# Altium schematic symbol library adafruit.SCHLIB: 884 symbols (part 11 of 15)
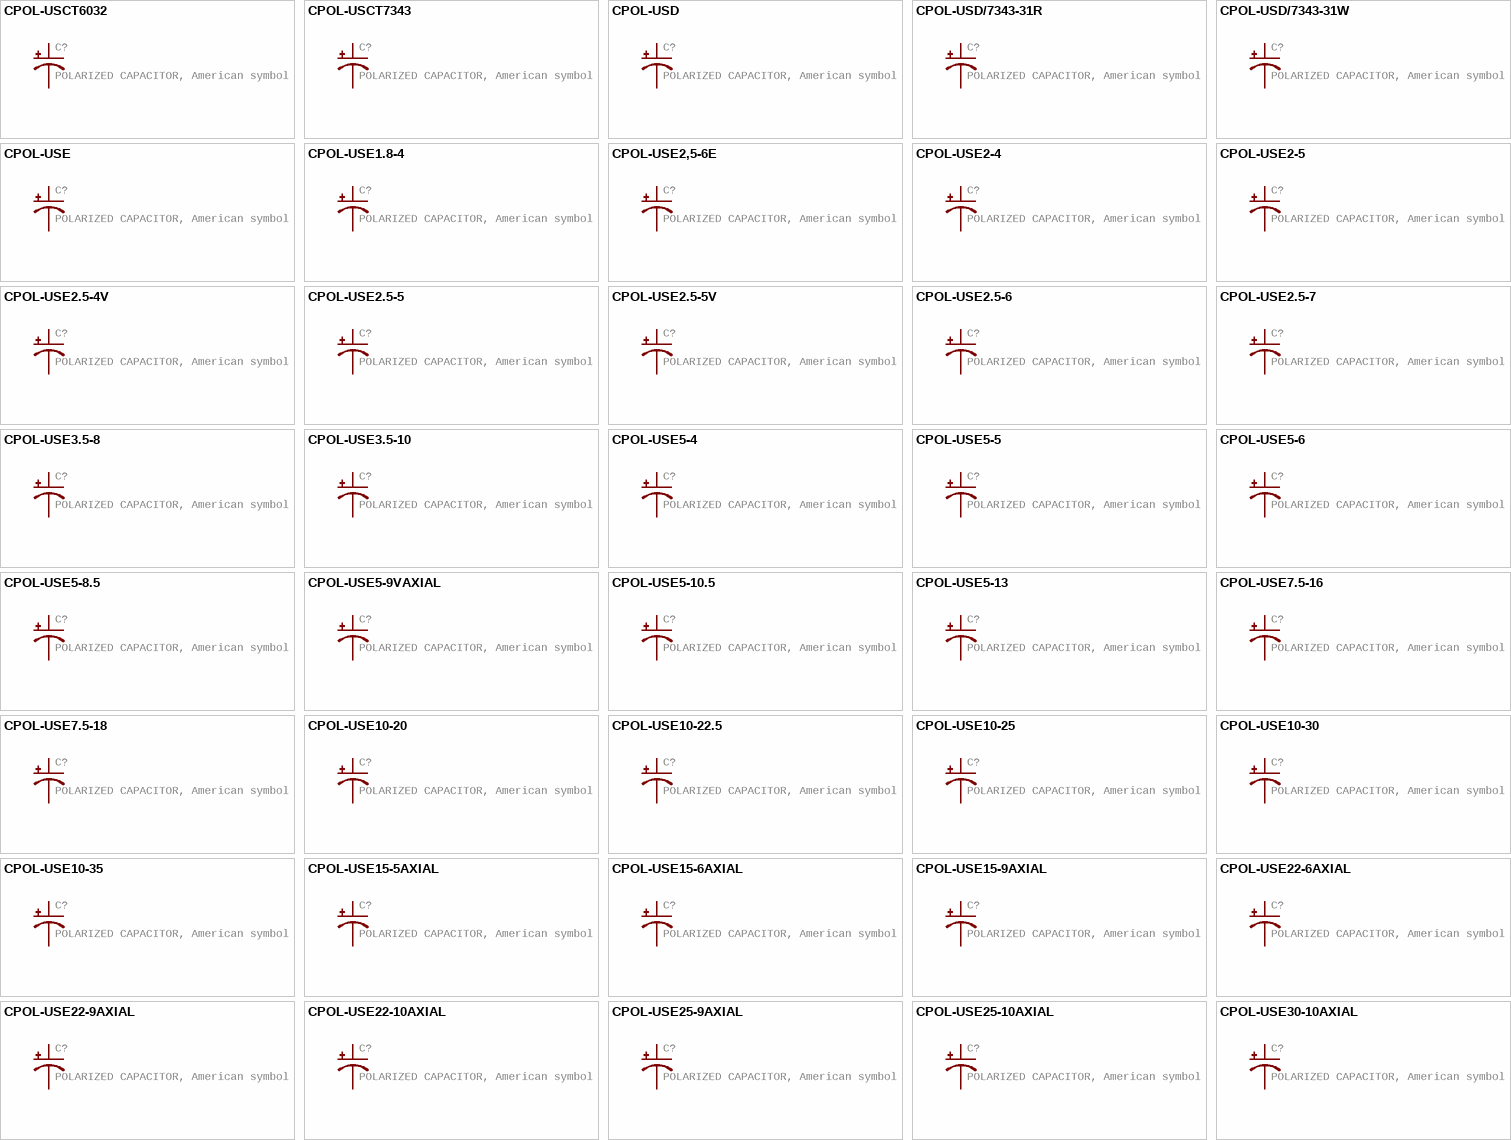
[diagram p198: symbols CPOL-USCT6032 to CPOL-USE30-10AXIAL]

## CPOL-USE2-4
designator C?, comment POLARIZED CAPACITOR, American symbol
GateName_1: G$1; SymbolName_1: CPOL-US; DeviceName: E2-4; LibraryName: adafruit; DeviceSetName: CPOL-US; Package: E2-4
footprint E2-4
pins: +, -

## CPOL-USE2-5
designator C?, comment POLARIZED CAPACITOR, American symbol
GateName_1: G$1; SymbolName_1: CPOL-US; DeviceName: E2-5; LibraryName: adafruit; DeviceSetName: CPOL-US; Package: E2-5
footprint E2-5
pins: +, -

## CPOL-USE2.5-4V
designator C?, comment POLARIZED CAPACITOR, American symbol
GateName_1: G$1; SymbolName_1: CPOL-US; DeviceName: E2.5-4V; LibraryName: adafruit; DeviceSetName: CPOL-US; Package: E2,5RE
footprint E2,5RE
pins: +, -

## CPOL-USE2.5-5
designator C?, comment POLARIZED CAPACITOR, American symbol
GateName_1: G$1; SymbolName_1: CPOL-US; DeviceName: E2.5-5; LibraryName: adafruit; DeviceSetName: CPOL-US; Package: E2,5-5
footprint E2,5-5
pins: +, -

## CPOL-USE2.5-5V
designator C?, comment POLARIZED CAPACITOR, American symbol
GateName_1: G$1; SymbolName_1: CPOL-US; DeviceName: E2.5-5V; LibraryName: adafruit; DeviceSetName: CPOL-US; Package: E2,5-4R
footprint E2,5-4R
pins: +, -

## CPOL-USE2.5-6
designator C?, comment POLARIZED CAPACITOR, American symbol
GateName_1: G$1; SymbolName_1: CPOL-US; DeviceName: E2.5-6; LibraryName: adafruit; DeviceSetName: CPOL-US; Package: E2,5-6
footprint E2,5-6
pins: +, -

## CPOL-USE2.5-7
designator C?, comment POLARIZED CAPACITOR, American symbol
GateName_1: G$1; SymbolName_1: CPOL-US; DeviceName: E2.5-7; LibraryName: adafruit; DeviceSetName: CPOL-US; Package: E2,5-7
footprint E2,5-7
pins: +, -

## CPOL-USE3.5-8
designator C?, comment POLARIZED CAPACITOR, American symbol
GateName_1: G$1; SymbolName_1: CPOL-US; DeviceName: E3.5-8; LibraryName: adafruit; DeviceSetName: CPOL-US; Package: E3,5-8
footprint E3,5-8
pins: +, -

## CPOL-USE3.5-10
designator C?, comment POLARIZED CAPACITOR, American symbol
GateName_1: G$1; SymbolName_1: CPOL-US; DeviceName: E3.5-10; LibraryName: adafruit; DeviceSetName: CPOL-US; Package: E3,5-10
footprint E3,5-10
pins: +, -

## CPOL-USE5-4
designator C?, comment POLARIZED CAPACITOR, American symbol
GateName_1: G$1; SymbolName_1: CPOL-US; DeviceName: E5-4; LibraryName: adafruit; DeviceSetName: CPOL-US; Package: E5-4
footprint E5-4
pins: +, -

## CPOL-USE5-5
designator C?, comment POLARIZED CAPACITOR, American symbol
GateName_1: G$1; SymbolName_1: CPOL-US; DeviceName: E5-5; LibraryName: adafruit; DeviceSetName: CPOL-US; Package: E5-5
footprint E5-5
pins: +, -

## CPOL-USE5-6
designator C?, comment POLARIZED CAPACITOR, American symbol
GateName_1: G$1; SymbolName_1: CPOL-US; DeviceName: E5-6; LibraryName: adafruit; DeviceSetName: CPOL-US; Package: E5-6
footprint E5-6
pins: +, -

## CPOL-USE5-8.5
designator C?, comment POLARIZED CAPACITOR, American symbol
GateName_1: G$1; SymbolName_1: CPOL-US; DeviceName: E5-8.5; LibraryName: adafruit; DeviceSetName: CPOL-US; Package: E5-8,5
footprint E5-8,5
pins: +, -

## CPOL-USE5-9VAXIAL
designator C?, comment POLARIZED CAPACITOR, American symbol
GateName_1: G$1; SymbolName_1: CPOL-US; DeviceName: E5-9VAXIAL; LibraryName: adafruit; DeviceSetName: CPOL-US; Package: E5R
footprint E5R
pins: +, -

## CPOL-USE5-10.5
designator C?, comment POLARIZED CAPACITOR, American symbol
GateName_1: G$1; SymbolName_1: CPOL-US; DeviceName: E5-10.5; LibraryName: adafruit; DeviceSetName: CPOL-US; Package: E5-10,5
footprint E5-10,5
pins: +, -

## CPOL-USE5-13
designator C?, comment POLARIZED CAPACITOR, American symbol
GateName_1: G$1; SymbolName_1: CPOL-US; DeviceName: E5-13; LibraryName: adafruit; DeviceSetName: CPOL-US; Package: E5-13
footprint E5-13
pins: +, -

## CPOL-USE7.5-16
designator C?, comment POLARIZED CAPACITOR, American symbol
GateName_1: G$1; SymbolName_1: CPOL-US; DeviceName: E7.5-16; LibraryName: adafruit; DeviceSetName: CPOL-US; Package: E7,5-16
footprint E7,5-16
pins: +, -

## CPOL-USE7.5-18
designator C?, comment POLARIZED CAPACITOR, American symbol
GateName_1: G$1; SymbolName_1: CPOL-US; DeviceName: E7.5-18; LibraryName: adafruit; DeviceSetName: CPOL-US; Package: E7,5-18
footprint E7,5-18
pins: +, -

## CPOL-USE10-20
designator C?, comment POLARIZED CAPACITOR, American symbol
GateName_1: G$1; SymbolName_1: CPOL-US; DeviceName: E10-20; LibraryName: adafruit; DeviceSetName: CPOL-US; Package: EB20D
footprint EB20D
pins: +, -

## CPOL-USE10-22.5
designator C?, comment POLARIZED CAPACITOR, American symbol
GateName_1: G$1; SymbolName_1: CPOL-US; DeviceName: E10-22.5; LibraryName: adafruit; DeviceSetName: CPOL-US; Package: EB22,5D
footprint EB22,5D
pins: +, -

## CPOL-USE10-25
designator C?, comment POLARIZED CAPACITOR, American symbol
GateName_1: G$1; SymbolName_1: CPOL-US; DeviceName: E10-25; LibraryName: adafruit; DeviceSetName: CPOL-US; Package: EB25D
footprint EB25D
pins: +, -

## CPOL-USE10-30
designator C?, comment POLARIZED CAPACITOR, American symbol
GateName_1: G$1; SymbolName_1: CPOL-US; DeviceName: E10-30; LibraryName: adafruit; DeviceSetName: CPOL-US; Package: EB30D
footprint EB30D
pins: +, -

## CPOL-USE10-35
designator C?, comment POLARIZED CAPACITOR, American symbol
GateName_1: G$1; SymbolName_1: CPOL-US; DeviceName: E10-35; LibraryName: adafruit; DeviceSetName: CPOL-US; Package: EB35D
footprint EB35D
pins: +, -

## CPOL-USE15-5AXIAL
designator C?, comment POLARIZED CAPACITOR, American symbol
GateName_1: G$1; SymbolName_1: CPOL-US; DeviceName: E15-5AXIAL; LibraryName: adafruit; DeviceSetName: CPOL-US; Package: E15-5
footprint E15-5
pins: +, -

## CPOL-USE15-6AXIAL
designator C?, comment POLARIZED CAPACITOR, American symbol
GateName_1: G$1; SymbolName_1: CPOL-US; DeviceName: E15-6AXIAL; LibraryName: adafruit; DeviceSetName: CPOL-US; Package: E15-6
footprint E15-6
pins: +, -

## CPOL-USE15-9AXIAL
designator C?, comment POLARIZED CAPACITOR, American symbol
GateName_1: G$1; SymbolName_1: CPOL-US; DeviceName: E15-9AXIAL; LibraryName: adafruit; DeviceSetName: CPOL-US; Package: E15-9
footprint E15-9
pins: +, -

## CPOL-USE22-6AXIAL
designator C?, comment POLARIZED CAPACITOR, American symbol
GateName_1: G$1; SymbolName_1: CPOL-US; DeviceName: E22-6AXIAL; LibraryName: adafruit; DeviceSetName: CPOL-US; Package: E22-6
footprint E22-6
pins: +, -

## CPOL-USE22-9AXIAL
designator C?, comment POLARIZED CAPACITOR, American symbol
GateName_1: G$1; SymbolName_1: CPOL-US; DeviceName: E22-9AXIAL; LibraryName: adafruit; DeviceSetName: CPOL-US; Package: E22-9
footprint E22-9
pins: +, -

## CPOL-USE22-10AXIAL
designator C?, comment POLARIZED CAPACITOR, American symbol
GateName_1: G$1; SymbolName_1: CPOL-US; DeviceName: E22-10AXIAL; LibraryName: adafruit; DeviceSetName: CPOL-US; Package: E22-10
footprint E22-10
pins: +, -

## CPOL-USE25-9AXIAL
designator C?, comment POLARIZED CAPACITOR, American symbol
GateName_1: G$1; SymbolName_1: CPOL-US; DeviceName: E25-9AXIAL; LibraryName: adafruit; DeviceSetName: CPOL-US; Package: E25-9
footprint E25-9
pins: +, -

## CPOL-USE25-10AXIAL
designator C?, comment POLARIZED CAPACITOR, American symbol
GateName_1: G$1; SymbolName_1: CPOL-US; DeviceName: E25-10AXIAL; LibraryName: adafruit; DeviceSetName: CPOL-US; Package: E25-10
footprint E25-10
pins: +, -

## CPOL-USE30-10AXIAL
designator C?, comment POLARIZED CAPACITOR, American symbol
GateName_1: G$1; SymbolName_1: CPOL-US; DeviceName: E30-10AXIAL; LibraryName: adafruit; DeviceSetName: CPOL-US; Package: E30-10
footprint E30-10
pins: +, -

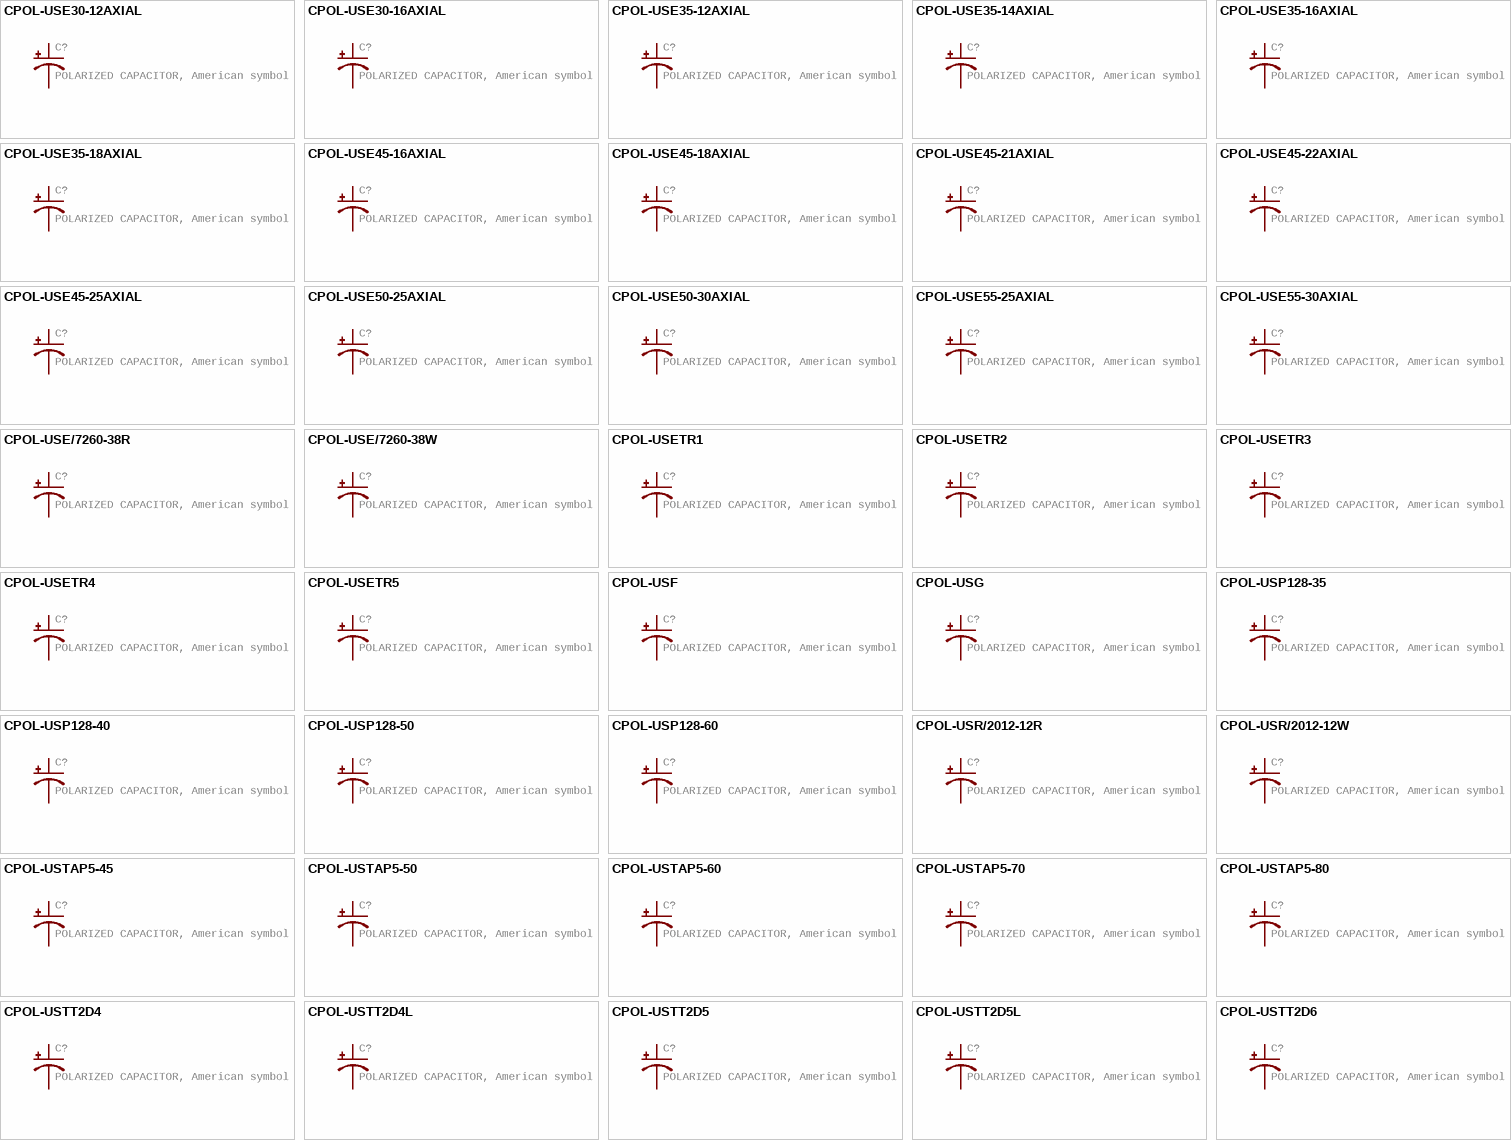
[diagram p171: symbols CPOL-USE30-12AXIAL to CPOL-USTT2D6]

## CPOL-USE30-12AXIAL
designator C?, comment POLARIZED CAPACITOR, American symbol
GateName_1: G$1; SymbolName_1: CPOL-US; DeviceName: E30-12AXIAL; LibraryName: adafruit; DeviceSetName: CPOL-US; Package: E30-12
footprint E30-12
pins: +, -

## CPOL-USE30-16AXIAL
designator C?, comment POLARIZED CAPACITOR, American symbol
GateName_1: G$1; SymbolName_1: CPOL-US; DeviceName: E30-16AXIAL; LibraryName: adafruit; DeviceSetName: CPOL-US; Package: E30-16
footprint E30-16
pins: +, -

## CPOL-USE35-12AXIAL
designator C?, comment POLARIZED CAPACITOR, American symbol
GateName_1: G$1; SymbolName_1: CPOL-US; DeviceName: E35-12AXIAL; LibraryName: adafruit; DeviceSetName: CPOL-US; Package: E35-12
footprint E35-12
pins: +, -

## CPOL-USE35-14AXIAL
designator C?, comment POLARIZED CAPACITOR, American symbol
GateName_1: G$1; SymbolName_1: CPOL-US; DeviceName: E35-14AXIAL; LibraryName: adafruit; DeviceSetName: CPOL-US; Package: E35-14
footprint E35-14
pins: +, -

## CPOL-USE35-16AXIAL
designator C?, comment POLARIZED CAPACITOR, American symbol
GateName_1: G$1; SymbolName_1: CPOL-US; DeviceName: E35-16AXIAL; LibraryName: adafruit; DeviceSetName: CPOL-US; Package: E35-16
footprint E35-16
pins: +, -

## CPOL-USE35-18AXIAL
designator C?, comment POLARIZED CAPACITOR, American symbol
GateName_1: G$1; SymbolName_1: CPOL-US; DeviceName: E35-18AXIAL; LibraryName: adafruit; DeviceSetName: CPOL-US; Package: E35-18
footprint E35-18
pins: +, -

## CPOL-USE45-16AXIAL
designator C?, comment POLARIZED CAPACITOR, American symbol
GateName_1: G$1; SymbolName_1: CPOL-US; DeviceName: E45-16AXIAL; LibraryName: adafruit; DeviceSetName: CPOL-US; Package: E45-16
footprint E45-16
pins: +, -

## CPOL-USE45-18AXIAL
designator C?, comment POLARIZED CAPACITOR, American symbol
GateName_1: G$1; SymbolName_1: CPOL-US; DeviceName: E45-18AXIAL; LibraryName: adafruit; DeviceSetName: CPOL-US; Package: E45-18
footprint E45-18
pins: +, -

## CPOL-USE45-21AXIAL
designator C?, comment POLARIZED CAPACITOR, American symbol
GateName_1: G$1; SymbolName_1: CPOL-US; DeviceName: E45-21AXIAL; LibraryName: adafruit; DeviceSetName: CPOL-US; Package: E45-21
footprint E45-21
pins: +, -

## CPOL-USE45-22AXIAL
designator C?, comment POLARIZED CAPACITOR, American symbol
GateName_1: G$1; SymbolName_1: CPOL-US; DeviceName: E45-22AXIAL; LibraryName: adafruit; DeviceSetName: CPOL-US; Package: E45-22
footprint E45-22
pins: +, -

## CPOL-USE45-25AXIAL
designator C?, comment POLARIZED CAPACITOR, American symbol
GateName_1: G$1; SymbolName_1: CPOL-US; DeviceName: E45-25AXIAL; LibraryName: adafruit; DeviceSetName: CPOL-US; Package: E45-25
footprint E45-25
pins: +, -

## CPOL-USE50-25AXIAL
designator C?, comment POLARIZED CAPACITOR, American symbol
GateName_1: G$1; SymbolName_1: CPOL-US; DeviceName: E50-25AXIAL; LibraryName: adafruit; DeviceSetName: CPOL-US; Package: E50-25
footprint E50-25
pins: +, -

## CPOL-USE50-30AXIAL
designator C?, comment POLARIZED CAPACITOR, American symbol
GateName_1: G$1; SymbolName_1: CPOL-US; DeviceName: E50-30AXIAL; LibraryName: adafruit; DeviceSetName: CPOL-US; Package: E50-30
footprint E50-30
pins: +, -

## CPOL-USE55-25AXIAL
designator C?, comment POLARIZED CAPACITOR, American symbol
GateName_1: G$1; SymbolName_1: CPOL-US; DeviceName: E55-25AXIAL; LibraryName: adafruit; DeviceSetName: CPOL-US; Package: E55-25
footprint E55-25
pins: +, -

## CPOL-USE55-30AXIAL
designator C?, comment POLARIZED CAPACITOR, American symbol
GateName_1: G$1; SymbolName_1: CPOL-US; DeviceName: E55-30AXIAL; LibraryName: adafruit; DeviceSetName: CPOL-US; Package: E55-30
footprint E55-30
pins: +, -

## CPOL-USE/7260-38R
designator C?, comment POLARIZED CAPACITOR, American symbol
GateName_1: G$1; SymbolName_1: CPOL-US; DeviceName: E/7260-38R; LibraryName: adafruit; DeviceSetName: CPOL-US; Package: E/7260-38R
footprint E/7260-38R
pins: +, -

## CPOL-USE/7260-38W
designator C?, comment POLARIZED CAPACITOR, American symbol
GateName_1: G$1; SymbolName_1: CPOL-US; DeviceName: E/7260-38W; LibraryName: adafruit; DeviceSetName: CPOL-US; Package: E/7260-38W
footprint E/7260-38W
pins: +, -

## CPOL-USETR1
designator C?, comment POLARIZED CAPACITOR, American symbol
GateName_1: G$1; SymbolName_1: CPOL-US; DeviceName: ETR1; LibraryName: adafruit; DeviceSetName: CPOL-US; Package: ETR1
footprint ETR1
pins: +, -

## CPOL-USETR2
designator C?, comment POLARIZED CAPACITOR, American symbol
GateName_1: G$1; SymbolName_1: CPOL-US; DeviceName: ETR2; LibraryName: adafruit; DeviceSetName: CPOL-US; Package: ETR2
footprint ETR2
pins: +, -

## CPOL-USETR3
designator C?, comment POLARIZED CAPACITOR, American symbol
GateName_1: G$1; SymbolName_1: CPOL-US; DeviceName: ETR3; LibraryName: adafruit; DeviceSetName: CPOL-US; Package: ETR3
footprint ETR3
pins: +, -

## CPOL-USETR4
designator C?, comment POLARIZED CAPACITOR, American symbol
GateName_1: G$1; SymbolName_1: CPOL-US; DeviceName: ETR4; LibraryName: adafruit; DeviceSetName: CPOL-US; Package: ETR4
footprint ETR4
pins: +, -

## CPOL-USETR5
designator C?, comment POLARIZED CAPACITOR, American symbol
GateName_1: G$1; SymbolName_1: CPOL-US; DeviceName: ETR5; LibraryName: adafruit; DeviceSetName: CPOL-US; Package: ETR5
footprint ETR5
pins: +, -

## CPOL-USF
designator C?, comment POLARIZED CAPACITOR, American symbol
GateName_1: G$1; SymbolName_1: CPOL-US; DeviceName: F; LibraryName: adafruit; DeviceSetName: CPOL-US; Package: PANASONIC_F
footprint PANASONIC_F
pins: +, -

## CPOL-USG
designator C?, comment POLARIZED CAPACITOR, American symbol
GateName_1: G$1; SymbolName_1: CPOL-US; DeviceName: G; LibraryName: adafruit; DeviceSetName: CPOL-US; Package: PANASONIC_G
footprint PANASONIC_G
pins: +, -

## CPOL-USP128-35
designator C?, comment POLARIZED CAPACITOR, American symbol
GateName_1: G$1; SymbolName_1: CPOL-US; DeviceName: P128-35; LibraryName: adafruit; DeviceSetName: CPOL-US; Package: P128-35
footprint P128-35
pins: +, -

## CPOL-USP128-40
designator C?, comment POLARIZED CAPACITOR, American symbol
GateName_1: G$1; SymbolName_1: CPOL-US; DeviceName: P128-40; LibraryName: adafruit; DeviceSetName: CPOL-US; Package: P128-40
footprint P128-40
pins: +, -

## CPOL-USP128-50
designator C?, comment POLARIZED CAPACITOR, American symbol
GateName_1: G$1; SymbolName_1: CPOL-US; DeviceName: P128-50; LibraryName: adafruit; DeviceSetName: CPOL-US; Package: P128-50
footprint P128-50
pins: +, -

## CPOL-USP128-60
designator C?, comment POLARIZED CAPACITOR, American symbol
GateName_1: G$1; SymbolName_1: CPOL-US; DeviceName: P128-60; LibraryName: adafruit; DeviceSetName: CPOL-US; Package: P128-60
footprint P128-60
pins: +, -

## CPOL-USR/2012-12R
designator C?, comment POLARIZED CAPACITOR, American symbol
GateName_1: G$1; SymbolName_1: CPOL-US; DeviceName: R/2012-12R; LibraryName: adafruit; DeviceSetName: CPOL-US; Package: R/2012-12R
footprint R/2012-12R
pins: +, -

## CPOL-USR/2012-12W
designator C?, comment POLARIZED CAPACITOR, American symbol
GateName_1: G$1; SymbolName_1: CPOL-US; DeviceName: R/2012-12W; LibraryName: adafruit; DeviceSetName: CPOL-US; Package: R/2012-12W
footprint R/2012-12W
pins: +, -

## CPOL-USTAP5-45
designator C?, comment POLARIZED CAPACITOR, American symbol
GateName_1: G$1; SymbolName_1: CPOL-US; DeviceName: TAP5-45; LibraryName: adafruit; DeviceSetName: CPOL-US; Package: TAP5-45
footprint TAP5-45
pins: +, -

## CPOL-USTAP5-50
designator C?, comment POLARIZED CAPACITOR, American symbol
GateName_1: G$1; SymbolName_1: CPOL-US; DeviceName: TAP5-50; LibraryName: adafruit; DeviceSetName: CPOL-US; Package: TAP5-50
footprint TAP5-50
pins: +, -

## CPOL-USTAP5-60
designator C?, comment POLARIZED CAPACITOR, American symbol
GateName_1: G$1; SymbolName_1: CPOL-US; DeviceName: TAP5-60; LibraryName: adafruit; DeviceSetName: CPOL-US; Package: TAP5-60
footprint TAP5-60
pins: +, -

## CPOL-USTAP5-70
designator C?, comment POLARIZED CAPACITOR, American symbol
GateName_1: G$1; SymbolName_1: CPOL-US; DeviceName: TAP5-70; LibraryName: adafruit; DeviceSetName: CPOL-US; Package: TAP5-70
footprint TAP5-70
pins: +, -

## CPOL-USTAP5-80
designator C?, comment POLARIZED CAPACITOR, American symbol
GateName_1: G$1; SymbolName_1: CPOL-US; DeviceName: TAP5-80; LibraryName: adafruit; DeviceSetName: CPOL-US; Package: TAP5-80
footprint TAP5-80
pins: +, -

## CPOL-USTT2D4
designator C?, comment POLARIZED CAPACITOR, American symbol
GateName_1: G$1; SymbolName_1: CPOL-US; DeviceName: TT2D4; LibraryName: adafruit; DeviceSetName: CPOL-US; Package: TT2D4
footprint TT2D4
pins: +, -

## CPOL-USTT2D4L
designator C?, comment POLARIZED CAPACITOR, American symbol
GateName_1: G$1; SymbolName_1: CPOL-US; DeviceName: TT2D4L; LibraryName: adafruit; DeviceSetName: CPOL-US; Package: TT2D4L
footprint TT2D4L
pins: +, -

## CPOL-USTT2D5
designator C?, comment POLARIZED CAPACITOR, American symbol
GateName_1: G$1; SymbolName_1: CPOL-US; DeviceName: TT2D5; LibraryName: adafruit; DeviceSetName: CPOL-US; Package: TT2D5
footprint TT2D5
pins: +, -

## CPOL-USTT2D5L
designator C?, comment POLARIZED CAPACITOR, American symbol
GateName_1: G$1; SymbolName_1: CPOL-US; DeviceName: TT2D5L; LibraryName: adafruit; DeviceSetName: CPOL-US; Package: TT2D5L
footprint TT2D5L
pins: +, -

## CPOL-USTT2D6
designator C?, comment POLARIZED CAPACITOR, American symbol
GateName_1: G$1; SymbolName_1: CPOL-US; DeviceName: TT2D6; LibraryName: adafruit; DeviceSetName: CPOL-US; Package: TT2D6
footprint TT2D6
pins: +, -

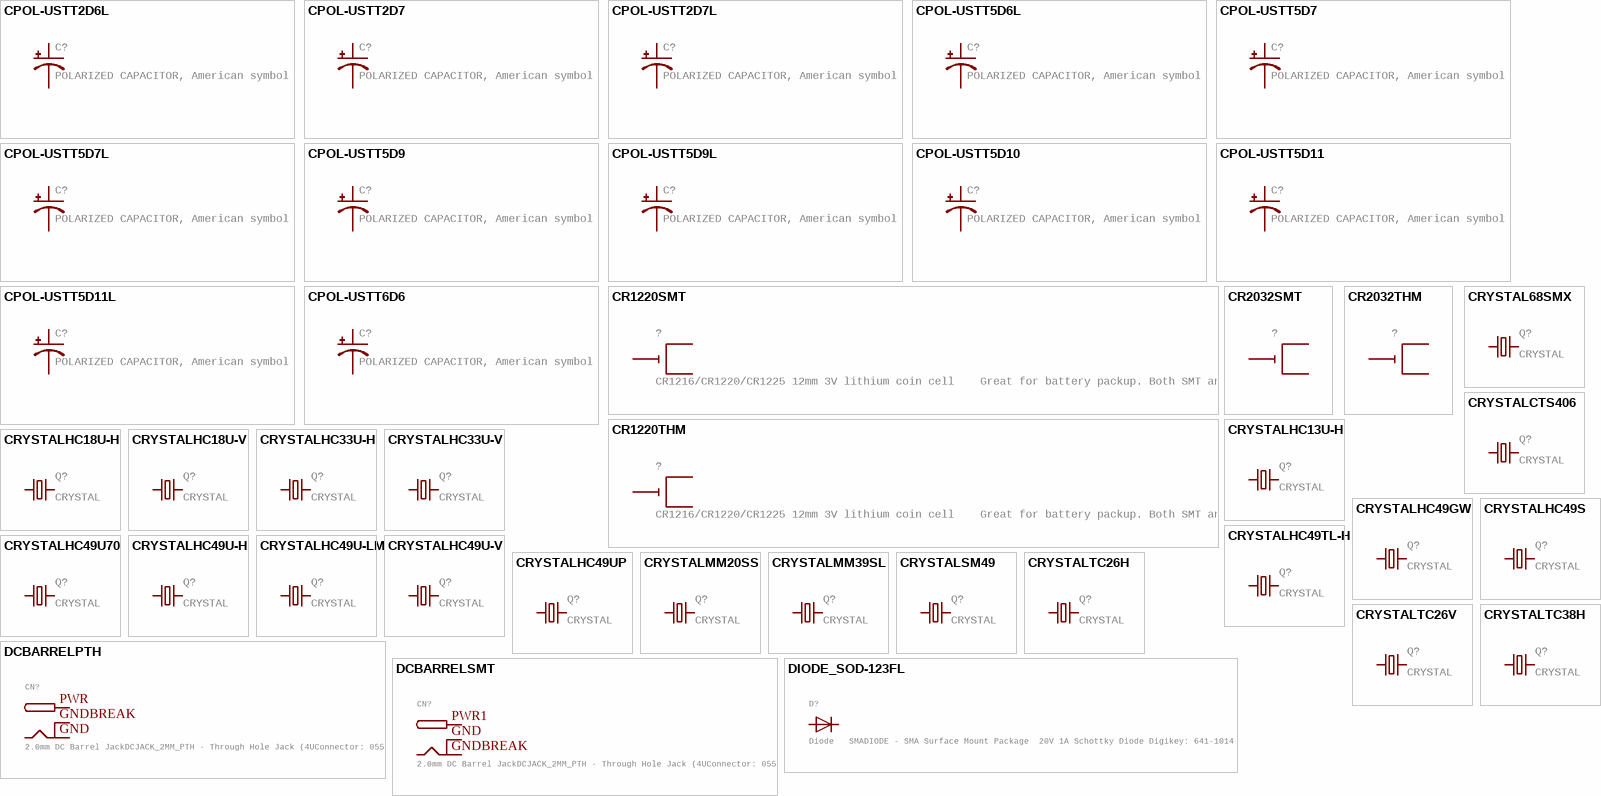
[diagram p172: symbols CPOL-USTT2D6L to DIODE_SOD-123FL]

## CPOL-USTT2D6L
designator C?, comment POLARIZED CAPACITOR, American symbol
GateName_1: G$1; SymbolName_1: CPOL-US; DeviceName: TT2D6L; LibraryName: adafruit; DeviceSetName: CPOL-US; Package: TT2D6L
footprint TT2D6L
pins: +, -

## CPOL-USTT2D7
designator C?, comment POLARIZED CAPACITOR, American symbol
GateName_1: G$1; SymbolName_1: CPOL-US; DeviceName: TT2D7; LibraryName: adafruit; DeviceSetName: CPOL-US; Package: TT2D7
footprint TT2D7
pins: +, -

## CPOL-USTT2D7L
designator C?, comment POLARIZED CAPACITOR, American symbol
GateName_1: G$1; SymbolName_1: CPOL-US; DeviceName: TT2D7L; LibraryName: adafruit; DeviceSetName: CPOL-US; Package: TT2D7L
footprint TT2D7L
pins: +, -

## CPOL-USTT5D6L
designator C?, comment POLARIZED CAPACITOR, American symbol
GateName_1: G$1; SymbolName_1: CPOL-US; DeviceName: TT5D6L; LibraryName: adafruit; DeviceSetName: CPOL-US; Package: TT5D6L
footprint TT5D6L
pins: +, -

## CPOL-USTT5D7
designator C?, comment POLARIZED CAPACITOR, American symbol
GateName_1: G$1; SymbolName_1: CPOL-US; DeviceName: TT5D7; LibraryName: adafruit; DeviceSetName: CPOL-US; Package: TT5D7
footprint TT5D7
pins: +, -

## CPOL-USTT5D7L
designator C?, comment POLARIZED CAPACITOR, American symbol
GateName_1: G$1; SymbolName_1: CPOL-US; DeviceName: TT5D7L; LibraryName: adafruit; DeviceSetName: CPOL-US; Package: TT5D7L
footprint TT5D7L
pins: +, -

## CPOL-USTT5D9
designator C?, comment POLARIZED CAPACITOR, American symbol
GateName_1: G$1; SymbolName_1: CPOL-US; DeviceName: TT5D9; LibraryName: adafruit; DeviceSetName: CPOL-US; Package: TT5D9
footprint TT5D9
pins: +, -

## CPOL-USTT5D9L
designator C?, comment POLARIZED CAPACITOR, American symbol
GateName_1: G$1; SymbolName_1: CPOL-US; DeviceName: TT5D9L; LibraryName: adafruit; DeviceSetName: CPOL-US; Package: TT5D9L
footprint TT5D9L
pins: +, -

## CPOL-USTT5D10
designator C?, comment POLARIZED CAPACITOR, American symbol
GateName_1: G$1; SymbolName_1: CPOL-US; DeviceName: TT5D10; LibraryName: adafruit; DeviceSetName: CPOL-US; Package: TT5D10
footprint TT5D10
pins: +, -

## CPOL-USTT5D11
designator C?, comment POLARIZED CAPACITOR, American symbol
GateName_1: G$1; SymbolName_1: CPOL-US; DeviceName: TT5D11; LibraryName: adafruit; DeviceSetName: CPOL-US; Package: TT5D11
footprint TT5D11
pins: +, -

## CPOL-USTT5D11L
designator C?, comment POLARIZED CAPACITOR, American symbol
GateName_1: G$1; SymbolName_1: CPOL-US; DeviceName: TT5D11L; LibraryName: adafruit; DeviceSetName: CPOL-US; Package: TT5D11L
footprint TT5D11L
pins: +, -

## CPOL-USTT6D6
designator C?, comment POLARIZED CAPACITOR, American symbol
GateName_1: G$1; SymbolName_1: CPOL-US; DeviceName: TT6D6; LibraryName: adafruit; DeviceSetName: CPOL-US; Package: TT5D6
footprint TT5D6
pins: +, -

## CR1220SMT
designator ?, comment CR1216/CR1220/CR1225 12mm 3V lithium coin cell    Great for battery packup. Both SMT and THM holders.  Note the THM package has the ground pads on both sides of the PCB so that the masks are the same - this reduces the cost
GateName_1: G$1; DeviceSetName: CR1220; SymbolName_1: 3V; DeviceName: SMT; LibraryName: adafruit; Package: CR1220-SMD
footprint CR1220-SMD
pins: +$1 +, +$2 +1, -

## CR1220THM
designator ?, comment CR1216/CR1220/CR1225 12mm 3V lithium coin cell    Great for battery packup. Both SMT and THM holders.  Note the THM package has the ground pads on both sides of the PCB so that the masks are the same - this reduces the cost
GateName_1: G$1; DeviceSetName: CR1220; SymbolName_1: 3V; DeviceName: THM; LibraryName: adafruit; Package: CR1220-THM
footprint CR1220-THM
pins: +1 +, +2 +1, -

## CR2032SMT
designator ?
GateName_1: G$1; SymbolName_1: 3V; DeviceName: SMT; DeviceSetName: CR2032; LibraryName: adafruit; Package: CR2032-SMD
footprint CR2032-SMD
pins: +$1 +, +$2 +1, -

## CR2032THM
designator ?
GateName_1: G$1; SymbolName_1: 3V; DeviceName: THM; DeviceSetName: CR2032; LibraryName: adafruit; Package: CR2032-THRU
footprint CR2032-THRU
pins: +1 +, +2 +1, -

## CRYSTAL68SMX
designator Q?, comment CRYSTAL
GateName_1: G$1; SymbolName_1: Q; DeviceName: 68SMX; LibraryName: adafruit; DeviceSetName: CRYSTAL; Package: 86SMX; OC_FARNELL: 6344860; OC_NEWARK: unknown
footprint 86SMX
pins: 1, 4 2

## CRYSTALCTS406
designator Q?, comment CRYSTAL
GateName_1: G$1; SymbolName_1: Q; DeviceName: CTS406; LibraryName: adafruit; DeviceSetName: CRYSTAL; Package: CTS406; OC_FARNELL: unknown; OC_NEWARK: unknown
footprint CTS406
pins: 1, 3 2

## CRYSTALHC13U-H
designator Q?, comment CRYSTAL
GateName_1: G$1; SymbolName_1: Q; DeviceName: HC13U-H; LibraryName: adafruit; DeviceSetName: CRYSTAL; Package: HC13U-H; OC_FARNELL: unknown; OC_NEWARK: unknown
footprint HC13U-H
pins: 1, 2

## CRYSTALHC18U-H
designator Q?, comment CRYSTAL
GateName_1: G$1; SymbolName_1: Q; DeviceName: HC18U-H; LibraryName: adafruit; DeviceSetName: CRYSTAL; Package: HC18U-H; OC_FARNELL: unknown; OC_NEWARK: unknown
footprint HC18U-H
pins: 1, 2

## CRYSTALHC18U-V
designator Q?, comment CRYSTAL
GateName_1: G$1; SymbolName_1: Q; DeviceName: HC18U-V; LibraryName: adafruit; DeviceSetName: CRYSTAL; Package: HC18U-V; OC_FARNELL: unknown; OC_NEWARK: unknown
footprint HC18U-V
pins: 1, 2

## CRYSTALHC33U-H
designator Q?, comment CRYSTAL
GateName_1: G$1; SymbolName_1: Q; DeviceName: HC33U-H; LibraryName: adafruit; DeviceSetName: CRYSTAL; Package: HC33U-H; OC_FARNELL: unknown; OC_NEWARK: unknown
footprint HC33U-H
pins: 1, 2

## CRYSTALHC33U-V
designator Q?, comment CRYSTAL
GateName_1: G$1; SymbolName_1: Q; DeviceName: HC33U-V; LibraryName: adafruit; DeviceSetName: CRYSTAL; Package: HC33U-V; OC_FARNELL: unknown; OC_NEWARK: unknown
footprint HC33U-V
pins: 1, 2

## CRYSTALHC49GW
designator Q?, comment CRYSTAL
GateName_1: G$1; SymbolName_1: Q; DeviceName: HC49GW; LibraryName: adafruit; DeviceSetName: CRYSTAL; Package: HC49GW; OC_FARNELL: unknown; OC_NEWARK: unknown
footprint HC49GW
pins: 1, 2

## CRYSTALHC49S
designator Q?, comment CRYSTAL
GateName_1: G$1; SymbolName_1: Q; DeviceName: HC49S; LibraryName: adafruit; DeviceSetName: CRYSTAL; Package: HC49/S; OC_FARNELL: 1667008; OC_NEWARK: unknown
footprint HC49/S
pins: 1, 2

## CRYSTALHC49TL-H
designator Q?, comment CRYSTAL
GateName_1: G$1; SymbolName_1: Q; DeviceName: HC49TL-H; LibraryName: adafruit; DeviceSetName: CRYSTAL; Package: HC49TL-H; OC_FARNELL: unknown; OC_NEWARK: unknown
footprint HC49TL-H
pins: 1, 2

## CRYSTALHC49U70
designator Q?, comment CRYSTAL
GateName_1: G$1; SymbolName_1: Q; DeviceName: HC49U70; LibraryName: adafruit; DeviceSetName: CRYSTAL; Package: HC49U70; OC_FARNELL: unknown; OC_NEWARK: unknown
footprint HC49U70
pins: 1, 2

## CRYSTALHC49U-H
designator Q?, comment CRYSTAL
GateName_1: G$1; SymbolName_1: Q; DeviceName: HC49U-H; LibraryName: adafruit; DeviceSetName: CRYSTAL; Package: HC49U-H; OC_FARNELL: 1666973; OC_NEWARK: unknown
footprint HC49U-H
pins: 1, 2

## CRYSTALHC49U-LM
designator Q?, comment CRYSTAL
GateName_1: G$1; SymbolName_1: Q; DeviceName: HC49U-LM; LibraryName: adafruit; DeviceSetName: CRYSTAL; Package: HC49U-LM; OC_FARNELL: 1666956; OC_NEWARK: unknown
footprint HC49U-LM
pins: 1, 2

## CRYSTALHC49U-V
designator Q?, comment CRYSTAL
GateName_1: G$1; SymbolName_1: Q; DeviceName: HC49U-V; LibraryName: adafruit; DeviceSetName: CRYSTAL; Package: HC49U-V; OC_FARNELL: 1666969; OC_NEWARK: unknown
footprint HC49U-V
pins: 1, 2

## CRYSTALHC49UP
designator Q?, comment CRYSTAL
GateName_1: G$1; SymbolName_1: Q; DeviceName: HC49UP; LibraryName: adafruit; DeviceSetName: CRYSTAL; Package: HC49UP; OC_FARNELL: unknown; OC_NEWARK: unknown
footprint HC49UP
pins: 1, 2

## CRYSTALMM20SS
designator Q?, comment CRYSTAL
GateName_1: G$1; SymbolName_1: Q; DeviceName: MM20SS; LibraryName: adafruit; DeviceSetName: CRYSTAL; Package: MM20SS; OC_FARNELL: unknown; OC_NEWARK: unknown
footprint MM20SS
pins: 1, 4 2

## CRYSTALMM39SL
designator Q?, comment CRYSTAL
GateName_1: G$1; SymbolName_1: Q; DeviceName: MM39SL; LibraryName: adafruit; DeviceSetName: CRYSTAL; Package: MM39SL; OC_FARNELL: unknown; OC_NEWARK: unknown
footprint MM39SL
pins: 1, 4 2

## CRYSTALSM49
designator Q?, comment CRYSTAL
GateName_1: G$1; SymbolName_1: Q; DeviceName: SM49; LibraryName: adafruit; DeviceSetName: CRYSTAL; Package: SM49; OC_FARNELL: unknown; OC_NEWARK: unknown
footprint SM49
pins: 1, 2

## CRYSTALTC26H
designator Q?, comment CRYSTAL
GateName_1: G$1; SymbolName_1: Q; DeviceName: TC26H; LibraryName: adafruit; DeviceSetName: CRYSTAL; Package: TC26H; OC_FARNELL: unknown; OC_NEWARK: unknown
footprint TC26H
pins: 1, 2

## CRYSTALTC26V
designator Q?, comment CRYSTAL
GateName_1: G$1; SymbolName_1: Q; DeviceName: TC26V; LibraryName: adafruit; DeviceSetName: CRYSTAL; Package: TC26V; OC_FARNELL: unknown; OC_NEWARK: unknown
footprint TC26V
pins: 1, 2

## CRYSTALTC38H
designator Q?, comment CRYSTAL
GateName_1: G$1; SymbolName_1: Q; DeviceName: TC38H; LibraryName: adafruit; DeviceSetName: CRYSTAL; Package: TC38H; OC_FARNELL: unknown; OC_NEWARK: unknown
footprint TC38H
pins: 1, 2

## DCBARRELPTH
designator CN?, comment 2.0mm DC Barrel JackDCJACK_2MM_PTH - Through Hole Jack (4UConnector: 05537)
GateName_1: G$1; DeviceName: PTH; SymbolName_1: DCBARREL; LibraryName: adafruit; DeviceSetName: DCBARREL; Package: DCJACK_2MM_PTH
footprint DCJACK_2MM_PTH
pins: GND (power), GNDBREAK (power), PWR (power)

## DCBARRELSMT
designator CN?, comment 2.0mm DC Barrel JackDCJACK_2MM_PTH - Through Hole Jack (4UConnector: 05537)
GateName_1: G$1; DeviceName: SMT; SymbolName_1: DCBARREL; LibraryName: adafruit; DeviceSetName: DCBARREL; Package: DCJACK_2MM_SMT
footprint DCJACK_2MM_SMT
pins: GND GNDBREAK (power), GNDBREAK GND (power), PWR1 PWR (power)

## DIODE_SOD-123FL
designator D?, comment Diode   SMADIODE - SMA Surface Mount Package  20V 1A Schottky Diode Digikey: 641-1014-6-ND    DO-1N4148 - Through Hole Small Current Diode SOD-123 20V 1 A (.5mV Vf) Schottky Diode - Digikey: MBRX120TPMSCT-ND    SOD-323 10V 570mA (.38mV Vf, 3ns) Schottky Diode - Digikey: ZLLS410CT-ND    SOD-523 30V 30mA Schottky Diode (RB751S-40TE61) - Digikey: RB751S-40TE61CT-ND    SOT23-R/W - SOT23 Package (R = Solder Paste/Reflow Ovens, W = Hand-Soldering)  BAT54Film 40V 300mA - Digikey: 497-7162-1-ND
GateName_1: G$1; DeviceName: _SOD-123FL; SymbolName_1: DIODE; LibraryName: adafruit; DeviceSetName: DIODE; Package: SOD-123FL
footprint SOD-123FL
pins: A, C

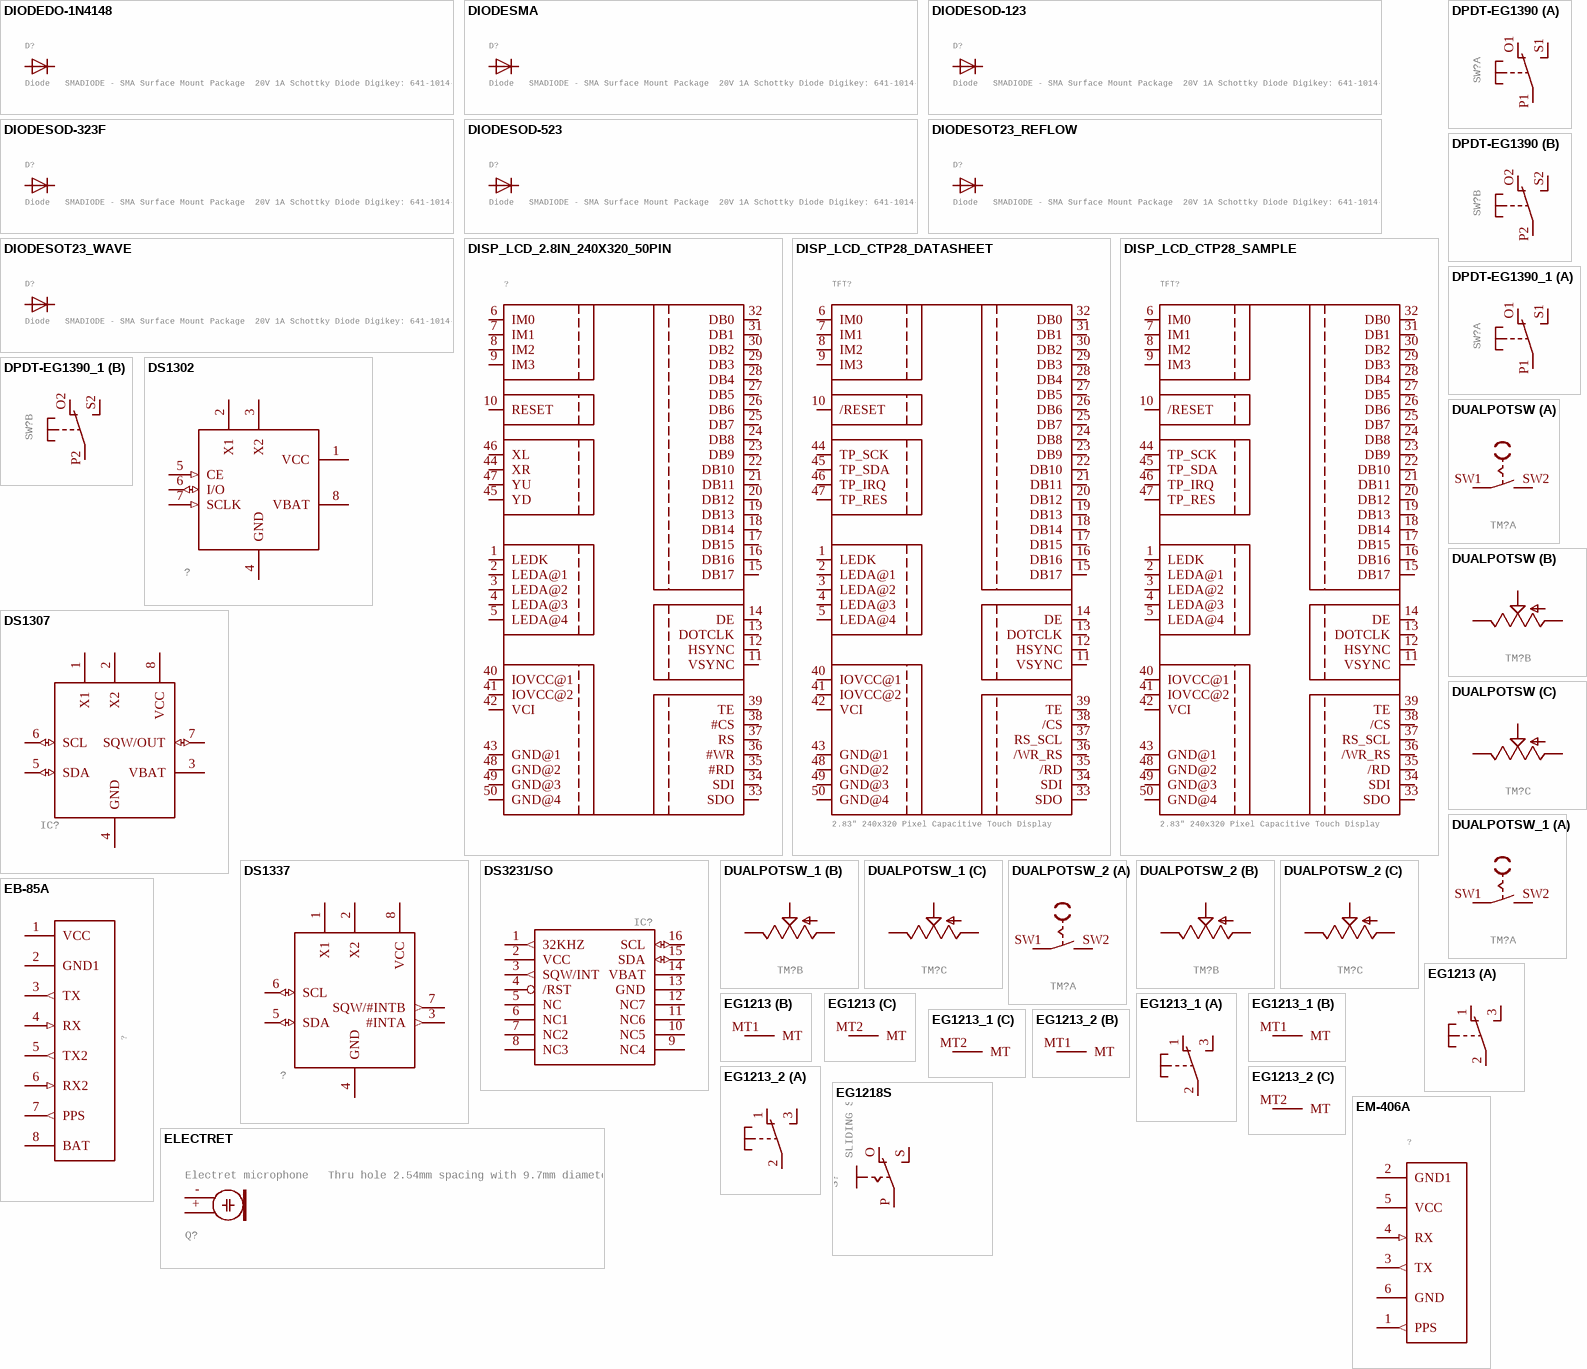
[diagram p173: symbols DIODEDO-1N4148 to EM-406A]

## DIODEDO-1N4148
designator D?, comment Diode   SMADIODE - SMA Surface Mount Package  20V 1A Schottky Diode Digikey: 641-1014-6-ND    DO-1N4148 - Through Hole Small Current Diode SOD-123 20V 1 A (.5mV Vf) Schottky Diode - Digikey: MBRX120TPMSCT-ND    SOD-323 10V 570mA (.38mV Vf, 3ns) Schottky Diode - Digikey: ZLLS410CT-ND    SOD-523 30V 30mA Schottky Diode (RB751S-40TE61) - Digikey: RB751S-40TE61CT-ND    SOT23-R/W - SOT23 Package (R = Solder Paste/Reflow Ovens, W = Hand-Soldering)  BAT54Film 40V 300mA - Digikey: 497-7162-1-ND
GateName_1: G$1; SymbolName_1: DIODE; DeviceName: DO-1N4148; LibraryName: adafruit; DeviceSetName: DIODE; Package: DO-1N4148
footprint DO-1N4148
pins: A, C

## DIODESMA
designator D?, comment Diode   SMADIODE - SMA Surface Mount Package  20V 1A Schottky Diode Digikey: 641-1014-6-ND    DO-1N4148 - Through Hole Small Current Diode SOD-123 20V 1 A (.5mV Vf) Schottky Diode - Digikey: MBRX120TPMSCT-ND    SOD-323 10V 570mA (.38mV Vf, 3ns) Schottky Diode - Digikey: ZLLS410CT-ND    SOD-523 30V 30mA Schottky Diode (RB751S-40TE61) - Digikey: RB751S-40TE61CT-ND    SOT23-R/W - SOT23 Package (R = Solder Paste/Reflow Ovens, W = Hand-Soldering)  BAT54Film 40V 300mA - Digikey: 497-7162-1-ND
GateName_1: G$1; SymbolName_1: DIODE; DeviceName: SMA; LibraryName: adafruit; DeviceSetName: DIODE; Package: SMADIODE
footprint SMADIODE
pins: A, C

## DIODESOD-123
designator D?, comment Diode   SMADIODE - SMA Surface Mount Package  20V 1A Schottky Diode Digikey: 641-1014-6-ND    DO-1N4148 - Through Hole Small Current Diode SOD-123 20V 1 A (.5mV Vf) Schottky Diode - Digikey: MBRX120TPMSCT-ND    SOD-323 10V 570mA (.38mV Vf, 3ns) Schottky Diode - Digikey: ZLLS410CT-ND    SOD-523 30V 30mA Schottky Diode (RB751S-40TE61) - Digikey: RB751S-40TE61CT-ND    SOT23-R/W - SOT23 Package (R = Solder Paste/Reflow Ovens, W = Hand-Soldering)  BAT54Film 40V 300mA - Digikey: 497-7162-1-ND
GateName_1: G$1; SymbolName_1: DIODE; DeviceName: SOD-123; LibraryName: adafruit; DeviceSetName: DIODE; Package: SOD-123
footprint SOD-123
pins: A, C

## DIODESOD-323F
designator D?, comment Diode   SMADIODE - SMA Surface Mount Package  20V 1A Schottky Diode Digikey: 641-1014-6-ND    DO-1N4148 - Through Hole Small Current Diode SOD-123 20V 1 A (.5mV Vf) Schottky Diode - Digikey: MBRX120TPMSCT-ND    SOD-323 10V 570mA (.38mV Vf, 3ns) Schottky Diode - Digikey: ZLLS410CT-ND    SOD-523 30V 30mA Schottky Diode (RB751S-40TE61) - Digikey: RB751S-40TE61CT-ND    SOT23-R/W - SOT23 Package (R = Solder Paste/Reflow Ovens, W = Hand-Soldering)  BAT54Film 40V 300mA - Digikey: 497-7162-1-ND
GateName_1: G$1; DeviceName: SOD-323F; SymbolName_1: DIODE; LibraryName: adafruit; DeviceSetName: DIODE; Package: SOD-323F
footprint SOD-323F
pins: A, C

## DIODESOD-523
designator D?, comment Diode   SMADIODE - SMA Surface Mount Package  20V 1A Schottky Diode Digikey: 641-1014-6-ND    DO-1N4148 - Through Hole Small Current Diode SOD-123 20V 1 A (.5mV Vf) Schottky Diode - Digikey: MBRX120TPMSCT-ND    SOD-323 10V 570mA (.38mV Vf, 3ns) Schottky Diode - Digikey: ZLLS410CT-ND    SOD-523 30V 30mA Schottky Diode (RB751S-40TE61) - Digikey: RB751S-40TE61CT-ND    SOT23-R/W - SOT23 Package (R = Solder Paste/Reflow Ovens, W = Hand-Soldering)  BAT54Film 40V 300mA - Digikey: 497-7162-1-ND
GateName_1: G$1; SymbolName_1: DIODE; DeviceName: SOD-523; LibraryName: adafruit; DeviceSetName: DIODE; Package: SOD-523
footprint SOD-523
pins: A, K C

## DIODESOT23_REFLOW
designator D?, comment Diode   SMADIODE - SMA Surface Mount Package  20V 1A Schottky Diode Digikey: 641-1014-6-ND    DO-1N4148 - Through Hole Small Current Diode SOD-123 20V 1 A (.5mV Vf) Schottky Diode - Digikey: MBRX120TPMSCT-ND    SOD-323 10V 570mA (.38mV Vf, 3ns) Schottky Diode - Digikey: ZLLS410CT-ND    SOD-523 30V 30mA Schottky Diode (RB751S-40TE61) - Digikey: RB751S-40TE61CT-ND    SOT23-R/W - SOT23 Package (R = Solder Paste/Reflow Ovens, W = Hand-Soldering)  BAT54Film 40V 300mA - Digikey: 497-7162-1-ND
GateName_1: G$1; DeviceName: SOT23_REFLOW; SymbolName_1: DIODE; LibraryName: adafruit; DeviceSetName: DIODE; Package: SOT23-R
footprint SOT23-R
pins: 1 A, 3 C

## DIODESOT23_WAVE
designator D?, comment Diode   SMADIODE - SMA Surface Mount Package  20V 1A Schottky Diode Digikey: 641-1014-6-ND    DO-1N4148 - Through Hole Small Current Diode SOD-123 20V 1 A (.5mV Vf) Schottky Diode - Digikey: MBRX120TPMSCT-ND    SOD-323 10V 570mA (.38mV Vf, 3ns) Schottky Diode - Digikey: ZLLS410CT-ND    SOD-523 30V 30mA Schottky Diode (RB751S-40TE61) - Digikey: RB751S-40TE61CT-ND    SOT23-R/W - SOT23 Package (R = Solder Paste/Reflow Ovens, W = Hand-Soldering)  BAT54Film 40V 300mA - Digikey: 497-7162-1-ND
GateName_1: G$1; DeviceName: SOT23_WAVE; SymbolName_1: DIODE; LibraryName: adafruit; DeviceSetName: DIODE; Package: SOT23-W
footprint SOT23-W
pins: 1 A, 3 C

## DISP_LCD_2.8IN_240X320_50PIN
designator ?
GateName_1: G$1; SymbolName_1: TFT_2.83IN_240X320_50PIN; DeviceSetName: DISP_LCD_2.8IN_240X320_50PIN; LibraryName: adafruit; Package: TFT_2.83IN_240X320_50PIN
footprint TFT_2.83IN_240X320_50PIN
pins: 1 LEDK (io), 2 LEDA@1 (io), 3 LEDA@2 (io), 4 LEDA@3 (io), 5 LEDA@4 (io), 6 IM0 (io), 7 IM1 (io), 8 IM2 (io), 9 IM3 (io), 10 RESET (io), 11 VSYNC (io), 12 HSYNC (io), 13 DOTCLK (io), 14 DE (io), 15 DB17 (io), 16 DB16 (io), 17 DB15 (io), 18 DB14 (io), 19 DB13 (io), 20 DB12 (io), 21 DB11 (io), 22 DB10 (io), 23 DB9 (io), 24 DB8 (io), 25 DB7 (io), 26 DB6 (io), 27 DB5 (io), 28 DB4 (io), 29 DB3 (io), 30 DB2 (io), 31 DB1 (io), 32 DB0 (io), 33 SDO (io), 34 SDI (io), 35 #RD (io), 36 #WR (io), 37 RS (io), 38 #CS (io), 39 TE (io), 40 IOVCC@1 (io), 41 IOVCC@2 (io), 42 VCI (io), 43 GND@1 (io), 44 XR (io), 45 YD (io), 46 XL (io), 47 YU (io), 48 GND@2 (io), 49 GND@3 (io), 50 GND@4 (io)

## DISP_LCD_CTP28_DATASHEET
designator TFT?, comment 2.83" 240x320 Pixel Capacitive Touch Display
GateName_1: G$1; SymbolName_1: TFT_CTP28_240X320_50PIN; DeviceName: _DATASHEET; DeviceSetName: DISP_LCD_CTP28; LibraryName: adafruit; Package: TFT_CTP28
footprint TFT_CTP28
pins: 1 LEDK (io), 2 LEDA@1 (io), 3 LEDA@2 (io), 4 LEDA@3 (io), 5 LEDA@4 (io), 6 IM0 (io), 7 IM1 (io), 8 IM2 (io), 9 IM3 (io), 10 /RESET (io), 11 VSYNC (io), 12 HSYNC (io), 13 DOTCLK (io), 14 DE (io), 15 DB17 (io), 16 DB16 (io), 17 DB15 (io), 18 DB14 (io), 19 DB13 (io), 20 DB12 (io), 21 DB11 (io), 22 DB10 (io), 23 DB9 (io), 24 DB8 (io), 25 DB7 (io), 26 DB6 (io), 27 DB5 (io), 28 DB4 (io), 29 DB3 (io), 30 DB2 (io), 31 DB1 (io), 32 DB0 (io), 33 SDO (io), 34 SDI (io), 35 /RD (io), 36 /WR_RS (io), 37 RS_SCL (io), 38 /CS (io), 39 TE (io), 40 IOVCC@1 (io), 41 IOVCC@2 (io), 42 VCI (io), 43 GND@1 (io), 44 TP_SCK (io), 45 TP_SDA (io), 46 TP_IRQ (io), 47 TP_RES (io), 48 GND@2 (io), 49 GND@3 (io), 50 GND@4 (io)

## DISP_LCD_CTP28_SAMPLE
designator TFT?, comment 2.83" 240x320 Pixel Capacitive Touch Display
GateName_1: G$1; SymbolName_1: TFT_CTP28_240X320_50PIN; DeviceName: _SAMPLE; DeviceSetName: DISP_LCD_CTP28; LibraryName: adafruit; Package: TFT_2.83IN_240X320_50PIN
footprint TFT_2.83IN_240X320_50PIN
pins: 1 LEDK (io), 2 LEDA@1 (io), 3 LEDA@2 (io), 4 LEDA@3 (io), 5 LEDA@4 (io), 6 IM0 (io), 7 IM1 (io), 8 IM2 (io), 9 IM3 (io), 10 /RESET (io), 11 VSYNC (io), 12 HSYNC (io), 13 DOTCLK (io), 14 DE (io), 15 DB17 (io), 16 DB16 (io), 17 DB15 (io), 18 DB14 (io), 19 DB13 (io), 20 DB12 (io), 21 DB11 (io), 22 DB10 (io), 23 DB9 (io), 24 DB8 (io), 25 DB7 (io), 26 DB6 (io), 27 DB5 (io), 28 DB4 (io), 29 DB3 (io), 30 DB2 (io), 31 DB1 (io), 32 DB0 (io), 33 SDO (io), 34 SDI (io), 35 /RD (io), 36 /WR_RS (io), 37 RS_SCL (io), 38 /CS (io), 39 TE (io), 40 IOVCC@1 (io), 41 IOVCC@2 (io), 42 VCI (io), 43 GND@1 (io), 44 TP_SCK (io), 45 TP_SDA (io), 46 TP_IRQ (io), 47 TP_RES (io), 48 GND@2 (io), 49 GND@3 (io), 50 GND@4 (io)

## DPDT-EG1390
designator SW?
GateName_1: 1; SymbolName_1: TSU; GateName_2: 2; DeviceName: -EG1390; DeviceSetName: DPDT; SymbolName_2: TSU; LibraryName: adafruit; Package: EG1390
footprint EG1390
part A pins: O1 O, P1 P, S1 S
part B pins: O2 O, P2 P, S2 S

## DPDT-EG1390_1
designator SW?
GateName_1: 1; SymbolName_1: TSU; GateName_2: 2; DeviceName: -EG1390; DeviceSetName: DPDT; SymbolName_2: TSU; LibraryName: adafruit; Package: EG1390
footprint EG1390
part A pins: O1 O, P1 P, S1 S
part B pins: O2 O, P2 P, S2 S

## DS1302
designator ?, comment DS1302 - Real time clock with supercap trickle charger  (value not drawn)
GateName_1: G$1; SymbolName_1: DS1302; LibraryName: adafruit; DeviceSetName: DS1302; Package: DIL08-ROUND
footprint DIL08-ROUND
pins: 1 VCC (power), 2 X1, 3 X2, 4 GND (power), 5 CE (in), 6 I/O (io), 7 SCLK (in), 8 VBAT (power)

## DS1307
designator IC?, comment DS1307   Real time clock (RTC) with battery backup ability. Talk to it via i2c  (value not drawn)
GateName_1: G$1; SymbolName_1: DS1307; LibraryName: adafruit; DeviceSetName: DS1307; Package: DIL08
footprint DIL08
pins: 1 X1, 2 X2, 3 VBAT (power), 4 GND (power), 5 SDA (io), 6 SCL (io), 7 SQW/OUT (io), 8 VCC (power)

## DS1337
designator ?, comment DS1337 - Maxim RTC without battery backup  (value not drawn)
GateName_1: G$1; SymbolName_1: DS1337; LibraryName: adafruit; DeviceSetName: DS1337; Package: DIL08-ROUND
footprint DIL08-ROUND
pins: 1 X1, 2 X2, 3 #INTA (out), 4 GND (power), 5 SDA (io), 6 SCL (io), 7 SQW/#INTB (out), 8 VCC (power)

## DS3231/SO
designator IC?
GateName_1: G$1; SymbolName_1: DS3231; DeviceName: /SO; LibraryName: adafruit; DeviceSetName: DS3231; Package: SO16W
footprint SO16W
pins: 1 32KHZ (out), 2 VCC (power), 3 SQW/INT (out), 4 /RST, 5 NC, 6 NC1, 7 NC2, 8 NC3, 9 NC4, 10 NC5, 11 NC6, 12 NC7, 13 GND (power), 14 VBAT (power), 15 SDA (io), 16 SCL (io)

## DUALPOTSW
designator TM?
GateName_1: SW; GateName_2: P2; SymbolName_2: POT; GateName_3: P1; DeviceSetName: DUALPOTSW; SymbolName_1: SW; SymbolName_3: POT; LibraryName: adafruit; Package: RK0971221
footprint RK0971221
part A pins: SW1 P, SW2 S
part B pins: A2 E, B2 A, W2 S
part C pins: A1 E, B1 A, W1 S

## DUALPOTSW_1
designator TM?
GateName_1: SW; GateName_2: P2; SymbolName_2: POT; GateName_3: P1; DeviceSetName: DUALPOTSW; SymbolName_1: SW; SymbolName_3: POT; LibraryName: adafruit; Package: RK0971221
footprint RK0971221
part A pins: SW1 P, SW2 S
part B pins: A2 E, B2 A, W2 S
part C pins: A1 E, B1 A, W1 S

## DUALPOTSW_2
designator TM?
GateName_1: SW; GateName_2: P2; SymbolName_2: POT; GateName_3: P1; DeviceSetName: DUALPOTSW; SymbolName_1: SW; SymbolName_3: POT; LibraryName: adafruit; Package: RK0971221
footprint RK0971221
part A pins: SW1 P, SW2 S
part B pins: A2 E, B2 A, W2 S
part C pins: A1 E, B1 A, W1 S

## EB-85A
designator ?
GateName_1: G$1; SymbolName_1: EB-85A; LibraryName: adafruit; DeviceSetName: EB-85A; Package: JST-8POS
footprint JST-8POS
pins: 1 VCC (power), 2 GND1 (power), 3 TX (out), 4 RX (in), 5 TX2 (out), 6 RX2 (in), 7 PPS (out), 8 BAT (power)

## EG1213
designator S?, comment E-Switch right-angle slide SPDT Part #EG1213    http://www.ladyada.net/library/eagle  (value not drawn)
GateName_1: 1; SymbolName_1: TSU; GateName_2: G$1; SymbolName_2: MT; GateName_3: G$2; DeviceSetName: EG1213; SymbolName_3: MT; LibraryName: adafruit; Package: EG1213
footprint EG1213
part A pins: 1 O, 2 P, 3 S
part B pins: MT1 MT
part C pins: MT2 MT

## EG1213_1
designator S?, comment E-Switch right-angle slide SPDT Part #EG1213    http://www.ladyada.net/library/eagle  (value not drawn)
GateName_1: 1; SymbolName_1: TSU; GateName_2: G$1; SymbolName_2: MT; GateName_3: G$2; DeviceSetName: EG1213; SymbolName_3: MT; LibraryName: adafruit; Package: EG1213
footprint EG1213
part A pins: 1 O, 2 P, 3 S
part B pins: MT1 MT
part C pins: MT2 MT

## EG1213_2
designator S?, comment E-Switch right-angle slide SPDT Part #EG1213    http://www.ladyada.net/library/eagle  (value not drawn)
GateName_1: 1; SymbolName_1: TSU; GateName_2: G$1; SymbolName_2: MT; GateName_3: G$2; DeviceSetName: EG1213; SymbolName_3: MT; LibraryName: adafruit; Package: EG1213
footprint EG1213
part A pins: 1 O, 2 P, 3 S
part B pins: MT1 MT
part C pins: MT2 MT

## EG1218S
designator S?, comment SLIDING SWITCH   0.1" spacing through hole, vertical SPDT slide switch    http://www.ladyada.net/library/pcb/eaglelibrary.html
GateName_1: 1; SymbolName_1: SIS; DeviceName: S; DeviceSetName: EG1218; LibraryName: adafruit; Package: EG1218
footprint EG1218
pins: O, P, S

## ELECTRET
designator Q?, comment Electret microphone   Thru hole 2.54mm spacing with 9.7mm diameter
GateName_1: G$1; SymbolName_1: ELECTRET; LibraryName: adafruit; DeviceSetName: ELECTRET; Package: 9.7ELECTRET
footprint 9.7ELECTRET
pins: + 2, - 1

## EM-406A
designator ?
GateName_1: G$1; SymbolName_1: EM-406A; LibraryName: adafruit; DeviceSetName: EM-406A; Package: JST-6POS
footprint JST-6POS
pins: 1 PPS (out), 2 GND1 (power), 3 TX (out), 4 RX (in), 5 VCC (power), 6 GND (power)

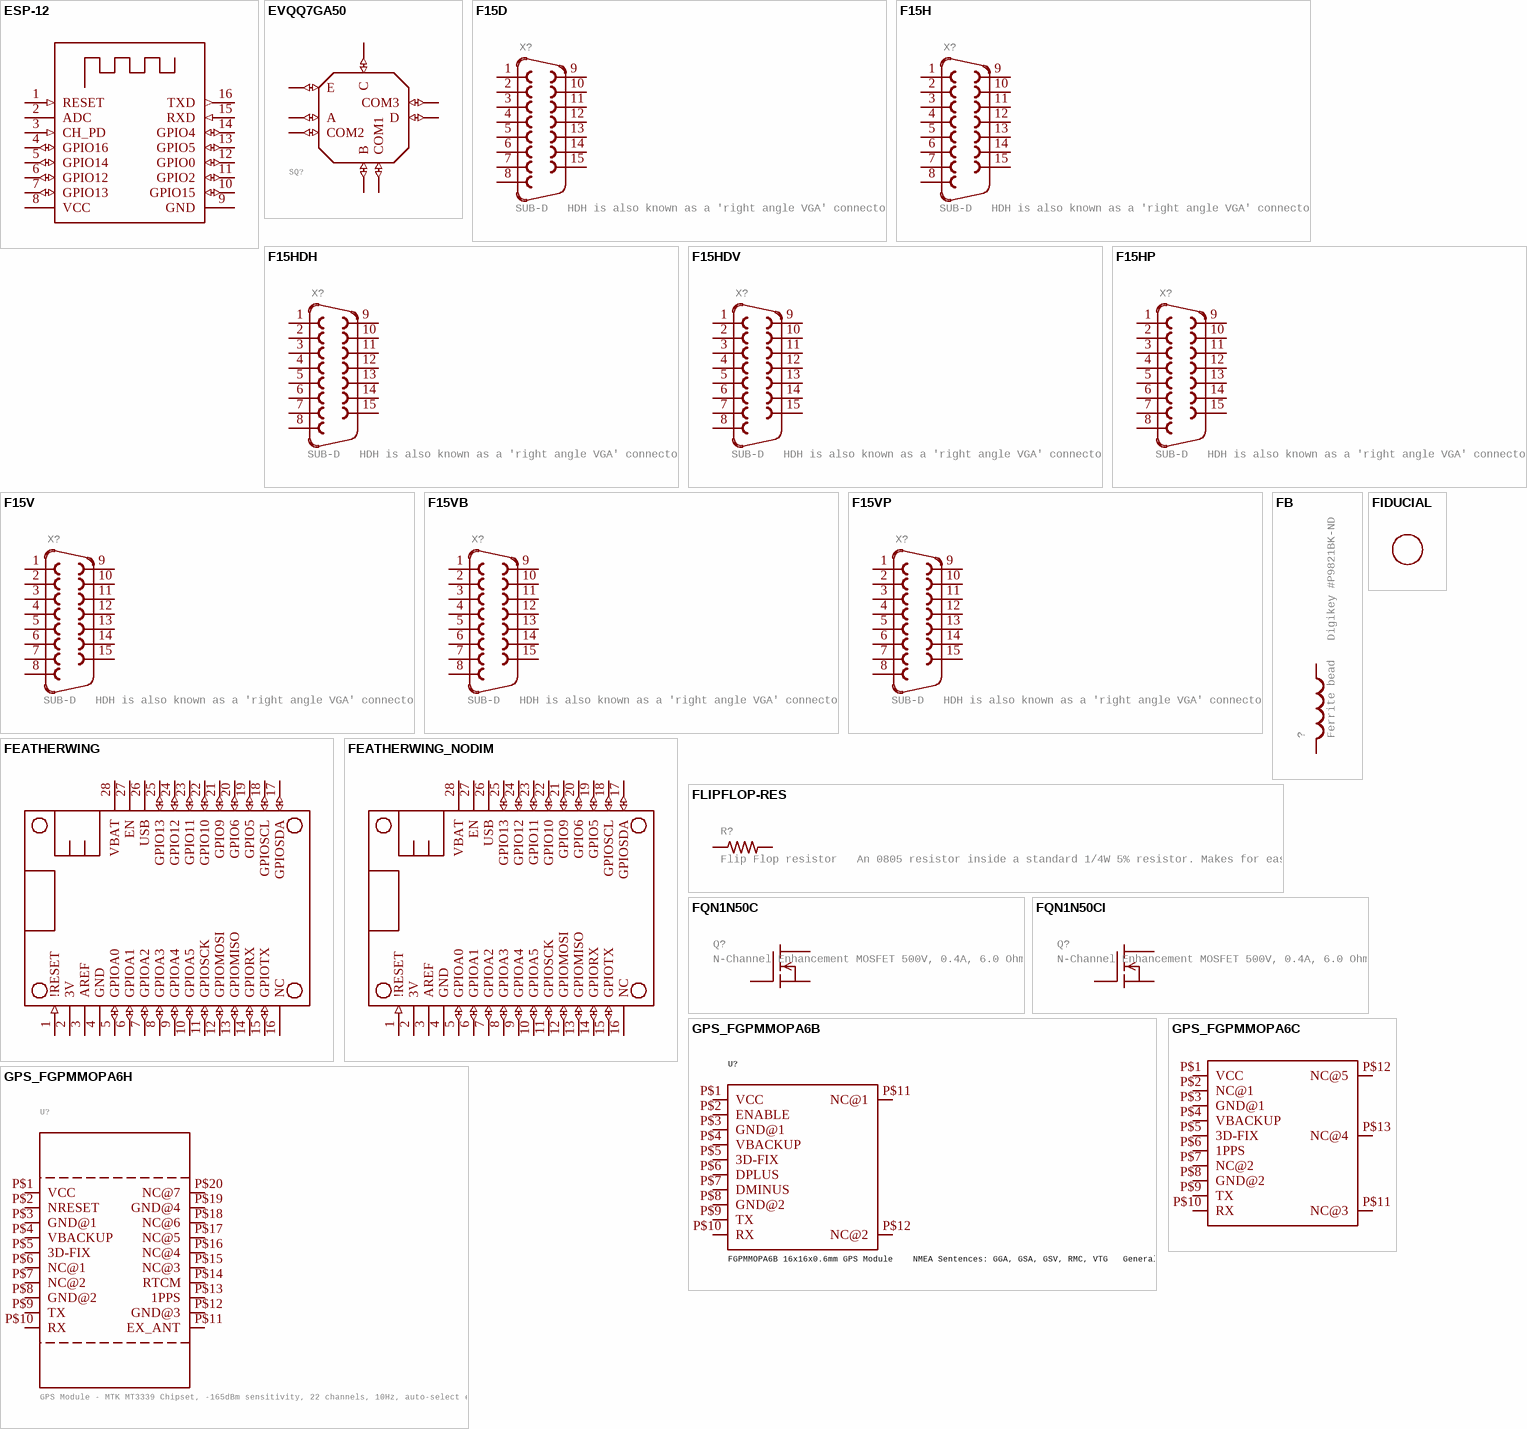
[diagram p174: symbols ESP-12 to GPS_FGPMMOPA6H]

## ESP-12
designator X?
GateName_1: G$1; SymbolName_1: ESP8266-12; DeviceSetName: ESP-12; LibraryName: adafruit; Package: ESP-12
footprint ESP-12
pins: 1 RESET (in), 2 ADC, 3 CH_PD (in), 4 GPIO16 (io), 5 GPIO14 (io), 6 GPIO12 (io), 7 GPIO13 (io), 8 VCC (power), 9 GND (power), 10 GPIO15 (io), 11 GPIO2 (io), 12 GPIO0 (io), 13 GPIO5 (io), 14 GPIO4 (io), 15 RXD (in), 16 TXD (out)

## EVQQ7GA50
designator SQ?
GateName_1: G$1; SymbolName_1: NAVSWITCH; DeviceName: GA50; DeviceSetName: EVQQ7; LibraryName: adafruit; Package: EVQQ7GA50
footprint EVQQ7GA50
pins: A (io), B (io), C (io), COM1 (io), COM2 (io), COM3 (io), D (io), E (io)

## F15D
designator X?, comment SUB-D   HDH is also known as a 'right angle VGA' connector
GateName_1: -1; SymbolName_1: F15; DeviceName: D; LibraryName: adafruit; DeviceSetName: F15; Package: F15D
footprint F15D
pins: 1, 2, 3, 4, 5, 6, 7, 8, 9, 10, 11, 12, 13, 14, 15

## F15H
designator X?, comment SUB-D   HDH is also known as a 'right angle VGA' connector
GateName_1: -1; SymbolName_1: F15; DeviceName: H; LibraryName: adafruit; DeviceSetName: F15; Package: F15H
footprint F15H
pins: 1, 2, 3, 4, 5, 6, 7, 8, 9, 10, 11, 12, 13, 14, 15

## F15HDH
designator X?, comment SUB-D   HDH is also known as a 'right angle VGA' connector
GateName_1: -1; SymbolName_1: F15; DeviceName: HDH; LibraryName: adafruit; DeviceSetName: F15; Package: HDF15H
footprint HDF15H
pins: 1, 2, 3, 4, 5, 6, 7, 8, 9, 10, 11, 12, 13, 14, 15

## F15HDV
designator X?, comment SUB-D   HDH is also known as a 'right angle VGA' connector
GateName_1: -1; SymbolName_1: F15; DeviceName: HDV; LibraryName: adafruit; DeviceSetName: F15; Package: HDF15V
footprint HDF15V
pins: 1, 2, 3, 4, 5, 6, 7, 8, 9, 10, 11, 12, 13, 14, 15

## F15HP
designator X?, comment SUB-D   HDH is also known as a 'right angle VGA' connector
GateName_1: -1; SymbolName_1: F15; DeviceName: HP; LibraryName: adafruit; DeviceSetName: F15; Package: F15HP
footprint F15HP
pins: 1, 2, 3, 4, 5, 6, 7, 8, 9, 10, 11, 12, 13, 14, 15

## F15V
designator X?, comment SUB-D   HDH is also known as a 'right angle VGA' connector
GateName_1: -1; SymbolName_1: F15; DeviceName: V; LibraryName: adafruit; DeviceSetName: F15; Package: F15V
footprint F15V
pins: 1, 2, 3, 4, 5, 6, 7, 8, 9, 10, 11, 12, 13, 14, 15

## F15VB
designator X?, comment SUB-D   HDH is also known as a 'right angle VGA' connector
GateName_1: -1; SymbolName_1: F15; DeviceName: VB; LibraryName: adafruit; DeviceSetName: F15; Package: F15VB
footprint F15VB
pins: 1, 2, 3, 4, 5, 6, 7, 8, 9, 10, 11, 12, 13, 14, 15

## F15VP
designator X?, comment SUB-D   HDH is also known as a 'right angle VGA' connector
GateName_1: -1; SymbolName_1: F15; DeviceName: VP; LibraryName: adafruit; DeviceSetName: F15; Package: F15VP
footprint F15VP
pins: 1, 2, 3, 4, 5, 6, 7, 8, 9, 10, 11, 12, 13, 14, 15

## FB
designator ?, comment Ferrite bead   Digikey #P9821BK-ND
GateName_1: G$1; SymbolName_1: FB; LibraryName: adafruit; DeviceSetName: FB; Package: FB
footprint FB
pins: P$1 1, P$2 2

## FEATHERWING
designator MS?
GateName_1: G$1; SymbolName_1: MICROSHIELD; DeviceSetName: FEATHERWING; LibraryName: adafruit; Package: FEATHERWING
footprint FEATHERWING
pins: 1 !RESET (in), 2 3V (power), 3 AREF, 4 GND (power), 5 GPIOA0 (io), 6 GPIOA1 (io), 7 GPIOA2 (io), 8 GPIOA3 (io), 9 GPIOA4 (io), 10 GPIOA5 (io), 11 GPIOSCK (io), 12 GPIOMOSI (io), 13 GPIOMISO (io), 14 GPIORX (io), 15 GPIOTX (io), 16 NC, 17 GPIOSDA (io), 18 GPIOSCL (io), 19 GPIO5 (io), 20 GPIO6 (io), 21 GPIO9 (io), 22 GPIO10 (io), 23 GPIO11 (io), 24 GPIO12 (io), 25 GPIO13 (io), 26 USB (power), 27 EN, 28 VBAT (power)

## FEATHERWING_NODIM
designator MS?
GateName_1: G$1; SymbolName_1: MICROSHIELD; DeviceName: _NODIM; DeviceSetName: FEATHERWING; LibraryName: adafruit; Package: FEATHERWING_DIM
footprint FEATHERWING_DIM
pins: 1 !RESET (in), 2 3V (power), 3 AREF, 4 GND (power), 5 GPIOA0 (io), 6 GPIOA1 (io), 7 GPIOA2 (io), 8 GPIOA3 (io), 9 GPIOA4 (io), 10 GPIOA5 (io), 11 GPIOSCK (io), 12 GPIOMOSI (io), 13 GPIOMISO (io), 14 GPIORX (io), 15 GPIOTX (io), 16 NC, 17 GPIOSDA (io), 18 GPIOSCL (io), 19 GPIO5 (io), 20 GPIO6 (io), 21 GPIO9 (io), 22 GPIO10 (io), 23 GPIO11 (io), 24 GPIO12 (io), 25 GPIO13 (io), 26 USB (power), 27 EN, 28 VBAT (power)

## FIDUCIAL
designator ?, comment For use by pick and place machines to calibrate the vision/machine, 1mm    By microbuilder.eu  (value not drawn)
GateName_1: G$1; SymbolName_1: DOT; DeviceSetName: FIDUCIAL; LibraryName: adafruit; Package: FIDUCIAL_1MM
footprint FIDUCIAL_1MM

## FLIPFLOP-RES
designator R?, comment Flip Flop resistor   An 0805 resistor inside a standard 1/4W 5% resistor. Makes for easy mods
GateName_1: G$1; SymbolName_1: R-US; DeviceSetName: FLIPFLOP-RES; LibraryName: adafruit; Package: 0805-THM
footprint 0805-THM
pins: 1, 2

## FQN1N50C
designator Q?, comment N-Channel Enhancement MOSFET 500V, 0.4A, 6.0 Ohm
GateName_1: G$1; SymbolName_1: IGFET-EN-GDS; DeviceSetName: FQN1N50C; LibraryName: adafruit; Package: TO92
footprint TO92
pins: 1 G, 2 D, 3 S

## FQN1N50CI
designator Q?, comment N-Channel Enhancement MOSFET 500V, 0.4A, 6.0 Ohm
GateName_1: G$1; SymbolName_1: IGFET-EN-GDS; DeviceName: I; DeviceSetName: FQN1N50C; LibraryName: adafruit; Package: TO92-INLINE
footprint TO92-INLINE
pins: 1 D, 2 G, 3 S

## GPS_FGPMMOPA6B
designator U?, comment FGPMMOPA6B 16x16x0.6mm GPS Module    NMEA Sentences: GGA, GSA, GSV, RMC, VTG   General Specifications Chipset: MTK MT3329  Baud Rate: 9600bps (default)  Update Rate: 1Hz (default)  Cold Start: ~35s  Operating Temp: -40 to 85Â°C       DC Characteristics Supply Voltage: 3.2-5.0V  Backup Battery Voltage: 2.0-4.3V  Digital Logic (UART): 3.3V  I(Tracking): 42mA  I(Acquisition): 53mA  I(BackupBattery): 10uA
GateName_1: G$1; DeviceSetName: GPS_FGPMMOPA6B; SymbolName_1: FGPMMOPA6B; LibraryName: adafruit; Package: FGPMMOPA6B
footprint FGPMMOPA6B
pins: P$1 VCC (io), P$2 ENABLE (io), P$3 GND@1 (io), P$4 VBACKUP (io), P$5 3D-FIX (io), P$6 DPLUS (io), P$7 DMINUS (io), P$8 GND@2 (io), P$9 TX (io), P$10 RX (io), P$11 NC@1 (io), P$12 NC@2 (io)

## GPS_FGPMMOPA6C
designator U?, comment FGPMMOPA6C 16x16 GPS Module    NMEA Sentences: GGA, GSA, GSV, RMC, VTG  (value not drawn)
GateName_1: G$1; DeviceSetName: GPS_FGPMMOPA6C; SymbolName_1: FGPMMOPA6C; LibraryName: adafruit; Package: FGPMMOPA6C
footprint FGPMMOPA6C
pins: P$1 VCC (io), P$2 NC@1 (io), P$3 GND@1 (io), P$4 VBACKUP (io), P$5 3D-FIX (io), P$6 1PPS (io), P$7 NC@2 (io), P$8 GND@2 (io), P$9 TX (io), P$10 RX (io), P$11 NC@3 (io), P$12 NC@5 (io), P$13 NC@4 (io)

## GPS_FGPMMOPA6H
designator U?, comment GPS Module - MTK MT3339 Chipset, -165dBm sensitivity, 22 channels, 10Hz, auto-select external antenna options
GateName_1: G$1; SymbolName_1: FGPMMOPA6H; DeviceSetName: GPS_FGPMMOPA6H; LibraryName: adafruit; Package: FGPMMOPA6H
footprint FGPMMOPA6H
pins: P$1 VCC (io), P$2 NRESET (io), P$3 GND@1 (io), P$4 VBACKUP (io), P$5 3D-FIX (io), P$6 NC@1 (io), P$7 NC@2 (io), P$8 GND@2 (io), P$9 TX (io), P$10 RX (io), P$11 EX_ANT (io), P$12 GND@3 (io), P$13 1PPS (io), P$14 RTCM (io), P$15 NC@3 (io), P$16 NC@4 (io), P$17 NC@5 (io), P$18 NC@6 (io), P$19 GND@4 (io), P$20 NC@7 (io)

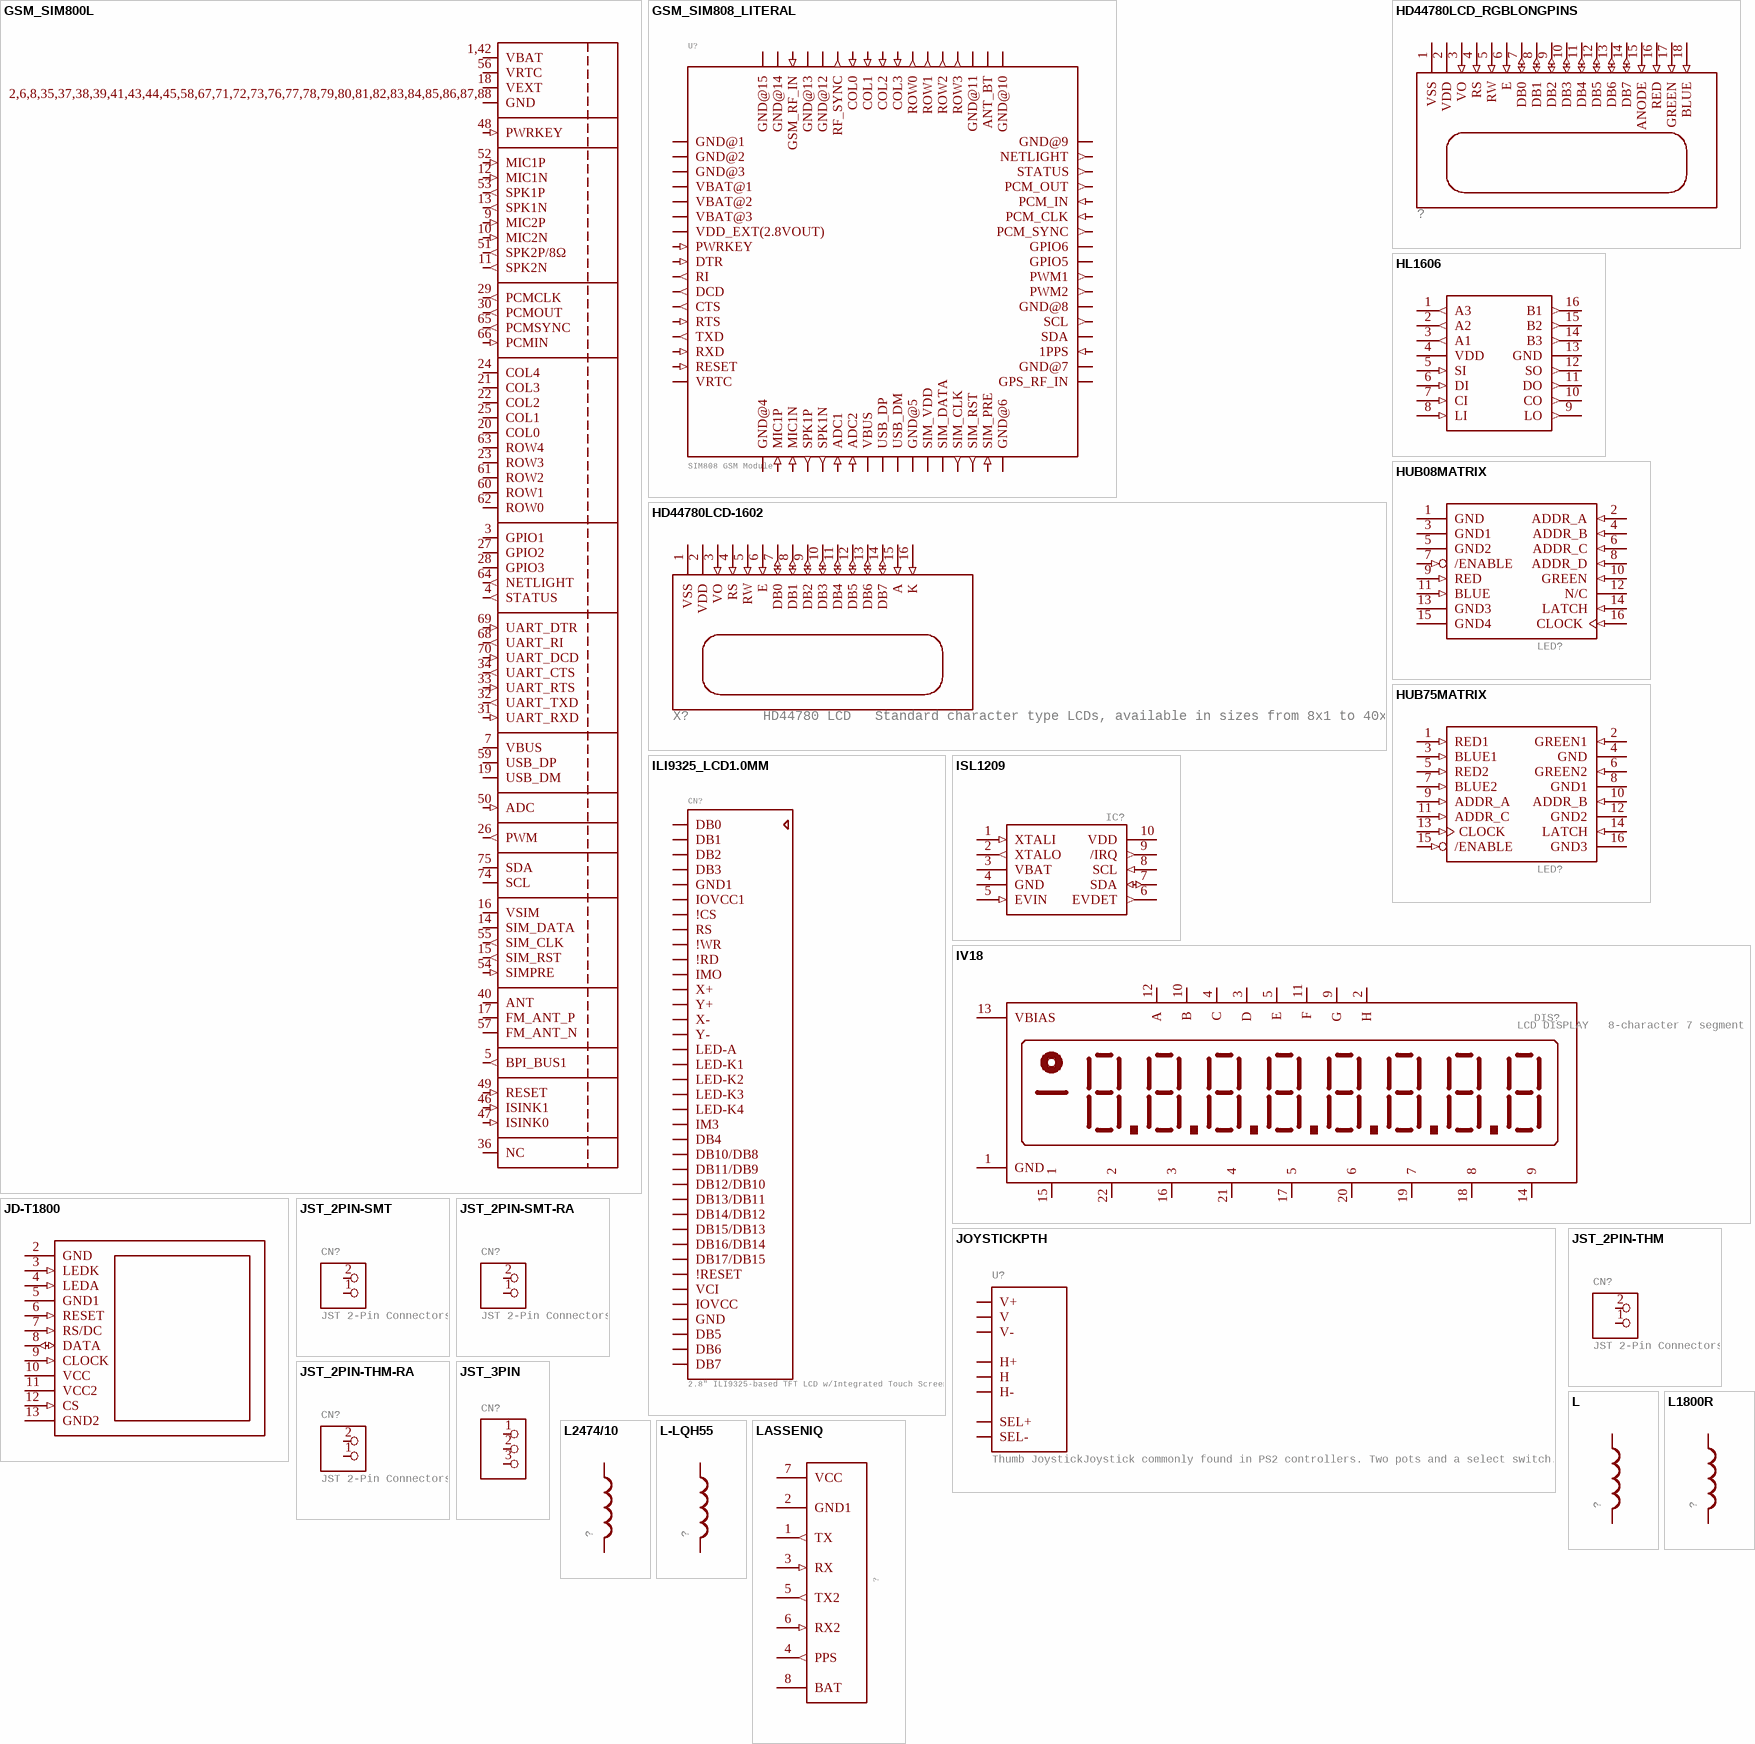
[diagram p175: symbols GSM_SIM800L to LASSENIQ]

## GSM_SIM800L
designator U?, comment SIM800K Quad-Band GSM/GPRS Module 850/900/1800/1900 MHz  Bluetooth EDR (3.0)  FM Band: 76-109MHz (50kHz steps)  -40 - 85Â°C  (value not drawn)
GateName_1: G$1; SymbolName_1: SIM800L; DeviceSetName: GSM_SIM800L; LibraryName: adafruit; Package: SIM800L
footprint SIM800L
pins: 1,42 VBAT (power), 2,6,8,35,37,38,39,41,43,44,45,58,67,71,72,73,76,77,78,79,80,81,82,83,84,85,86,87,88 GND (power), 3 GPIO1 (io), 4 STATUS (out), 5 BPI_BUS1 (out), 7 VBUS (power), 9 MIC2P (in), 10 MIC2N (in), 11 SPK2N (out), 12 MIC1N (in), 13 SPK1N (out), 14 SIM_DATA (io), 15 SIM_RST (out), 16 VSIM (power), 17 FM_ANT_P (io), 18 VEXT (power), 19 USB_DM (io), 20 COL0 (io), 21 COL3 (io), 22 COL2 (io), 23 ROW3 (io), 24 COL4 (io), 25 COL1 (io), 26 PWM (out), 27 GPIO2 (io), 28 GPIO3 (io), 29 PCMCLK (out), 30 PCMOUT (out), 31 UART_RXD (in), 32 UART_TXD (out), 33 UART_RTS (in), 34 UART_CTS (out), 36 NC, 40 ANT (io), 46 ISINK1 (in), 47 ISINK0 (in), 48 PWRKEY (in), 49 RESET (in), 50 ADC (in), 51 SPK2P/8Ω (out), 52 MIC1P (in), 53 SPK1P (out), 54 SIMPRE (in), 55 SIM_CLK (out), 56 VRTC (power), 57 FM_ANT_N (io), 59 USB_DP (io), 60 ROW1 (io), 61 ROW2 (io), 62 ROW0 (io), 63 ROW4 (io), 64 NETLIGHT (out), 65 PCMSYNC (out), 66 PCMIN (in), 68 UART_RI (out), 69 UART_DTR (in), 70 UART_DCD (in), 74 SCL (io), 75 SDA (io)

## GSM_SIM808_LITERAL
designator U?, comment SIM808 GSM Module
GateName_1: G$1; SymbolName_1: SIM808_LITERAL; DeviceSetName: GSM_SIM808_LITERAL; LibraryName: adafruit; Package: SIM900_SMT
footprint SIM900_SMT
pins: P$1 GND@1 (power), P$2 GND@2 (power), P$3 GND@3 (power), P$4 VBAT@1 (power), P$5 VBAT@2 (power), P$6 VBAT@3 (power), P$7 VDD_EXT(2.8VOUT) (power), P$8 PWRKEY (in), P$9 DTR (in), P$10 RI (out), P$11 DCD (out), P$12 CTS (out), P$13 RTS (in), P$14 TXD (out), P$15 RXD (in), P$16 RESET (in), P$17 VRTC (power), P$18 GND@4 (power), P$19 MIC1P (in), P$20 MIC1N (in), P$21 SPK1P (out), P$22 SPK1N (out), P$23 ADC1 (in), P$24 ADC2 (in), P$25 VBUS (power), P$26 USB_DP (io), P$27 USB_DM (io), P$28 GND@5 (power), P$29 SIM_VDD (power), P$30 SIM_DATA (io), P$31 SIM_CLK (out), P$32 SIM_RST (out), P$33 SIM_PRE (in), P$34 GND@6 (power), P$35 GPS_RF_IN (io), P$36 GND@7 (power), P$37 1PPS (in), P$38 SDA (io), P$39 SCL (out), P$40 GND@8 (power), P$41 PWM2 (out), P$42 PWM1 (out), P$43 GPIO5 (io), P$44 GPIO6 (io), P$45 PCM_SYNC (out), P$46 PCM_CLK (in), P$47 PCM_IN (in), P$48 PCM_OUT (out), P$49 STATUS (out), P$50 NETLIGHT (out), P$51 GND@9 (power), P$52 GND@10 (power), P$53 ANT_BT (io), P$54 GND@11 (power), P$55 ROW3 (out), P$56 ROW2 (out), P$57 ROW1 (out), P$58 ROW0 (out), P$59 COL3 (in), P$60 COL2 (in), P$61 COL1 (in), P$62 COL0 (in), P$63 RF_SYNC (out), P$64 GND@12 (power), P$65 GND@13 (power), P$66 GSM_RF_IN (in), P$67 GND@14 (power), P$68 GND@15 (power)